# Altium schematic symbol library MCU_ST_STM32U0.SchLib: 48 symbols
Pins are listed as number, name and electrical type; pins without a type are passive.

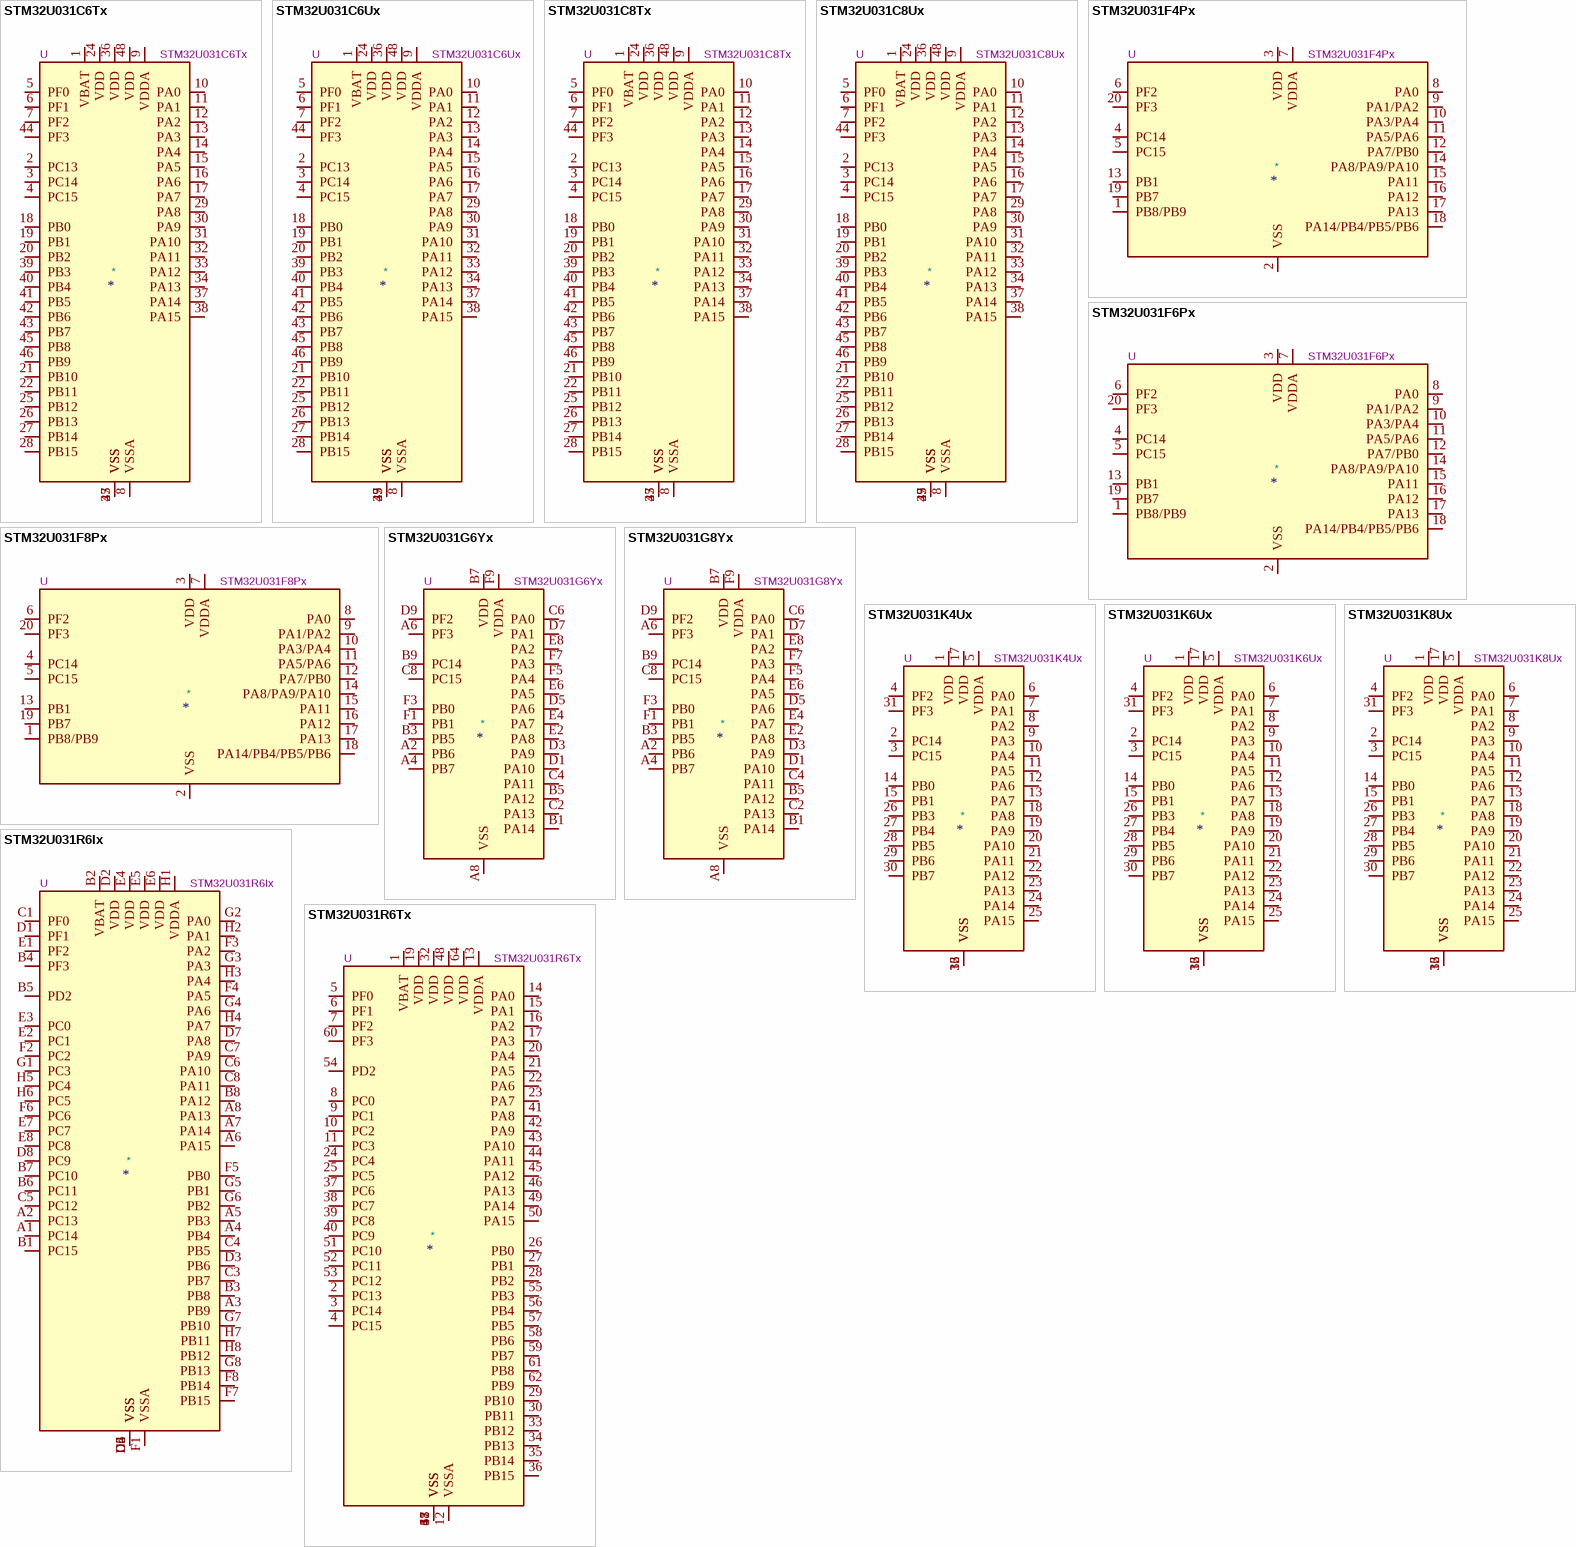
[diagram p0: symbols STM32U031C6Tx to STM32U031R6Tx]

## STM32U031C6Tx
designator *  value STM32U031C6Tx  Reference: U
STMicroelectronics Arm Cortex-M0+ MCU, 32KB flash, 12KB RAM, 39 GPIO, LQFP48; ki_keywords: Arm Cortex-M0+ STM32U0 STM32U0x1; ki_fp_filters: LQFP*7x7mm*P0.5mm*; Footprint: Package_QFP:LQFP-48_7x7mm_P0.5mm; Datasheet: https://www.st.com/resource/en/datasheet/stm32u031c6.pdf; Description_: STMicroelectronics Arm Cortex-M0+ MCU, 32KB flash, 12KB RAM, 39 GPIO, LQFP48
pins: 1 VBAT, 2 PC13, 3 PC14, 4 PC15, 5 PF0, 6 PF1, 7 PF2, 8 VSSA, 9 VDDA, 10 PA0, 11 PA1, 12 PA2, 13 PA3, 14 PA4, 15 PA5, 16 PA6, 17 PA7, 18 PB0, 19 PB1, 20 PB2, 21 PB10, 22 PB11, 23 VSS, 24 VDD, 25 PB12, 26 PB13, 27 PB14, 28 PB15, 29 PA8, 30 PA9, 31 PA10, 32 PA11, 33 PA12, 34 PA13, 35 VSS, 36 VDD, 37 PA14, 38 PA15, 39 PB3, 40 PB4, 41 PB5, 42 PB6, 43 PB7, 44 PF3, 45 PB8, 46 PB9, 47 VSS, 48 VDD

## STM32U031C6Ux
designator *  value STM32U031C6Ux  Reference: U
STMicroelectronics Arm Cortex-M0+ MCU, 32KB flash, 12KB RAM, 39 GPIO, UFQFPN48; ki_keywords: Arm Cortex-M0+ STM32U0 STM32U0x1; ki_fp_filters: QFN*1EP*7x7mm*P0.5mm*; Footprint: Package_DFN_QFN:QFN-48-1EP_7x7mm_P0.5mm_EP5.6x5.6mm; Datasheet: https://www.st.com/resource/en/datasheet/stm32u031c6.pdf; Description_: STMicroelectronics Arm Cortex-M0+ MCU, 32KB flash, 12KB RAM, 39 GPIO, UFQFPN48
pins: 1 VBAT, 2 PC13, 3 PC14, 4 PC15, 5 PF0, 6 PF1, 7 PF2, 8 VSSA, 9 VDDA, 10 PA0, 11 PA1, 12 PA2, 13 PA3, 14 PA4, 15 PA5, 16 PA6, 17 PA7, 18 PB0, 19 PB1, 20 PB2, 21 PB10, 22 PB11, 23 VSS, 24 VDD, 25 PB12, 26 PB13, 27 PB14, 28 PB15, 29 PA8, 30 PA9, 31 PA10, 32 PA11, 33 PA12, 34 PA13, 35 VSS, 36 VDD, 37 PA14, 38 PA15, 39 PB3, 40 PB4, 41 PB5, 42 PB6, 43 PB7, 44 PF3, 45 PB8, 46 PB9, 47 VSS, 48 VDD, 49 VSS

## STM32U031C8Tx
designator *  value STM32U031C8Tx  Reference: U
STMicroelectronics Arm Cortex-M0+ MCU, 64KB flash, 12KB RAM, 39 GPIO, LQFP48; ki_keywords: Arm Cortex-M0+ STM32U0 STM32U0x1; ki_fp_filters: LQFP*7x7mm*P0.5mm*; Footprint: Package_QFP:LQFP-48_7x7mm_P0.5mm; Datasheet: https://www.st.com/resource/en/datasheet/stm32u031c8.pdf; Description_: STMicroelectronics Arm Cortex-M0+ MCU, 64KB flash, 12KB RAM, 39 GPIO, LQFP48
pins: 1 VBAT, 2 PC13, 3 PC14, 4 PC15, 5 PF0, 6 PF1, 7 PF2, 8 VSSA, 9 VDDA, 10 PA0, 11 PA1, 12 PA2, 13 PA3, 14 PA4, 15 PA5, 16 PA6, 17 PA7, 18 PB0, 19 PB1, 20 PB2, 21 PB10, 22 PB11, 23 VSS, 24 VDD, 25 PB12, 26 PB13, 27 PB14, 28 PB15, 29 PA8, 30 PA9, 31 PA10, 32 PA11, 33 PA12, 34 PA13, 35 VSS, 36 VDD, 37 PA14, 38 PA15, 39 PB3, 40 PB4, 41 PB5, 42 PB6, 43 PB7, 44 PF3, 45 PB8, 46 PB9, 47 VSS, 48 VDD

## STM32U031C8Ux
designator *  value STM32U031C8Ux  Reference: U
STMicroelectronics Arm Cortex-M0+ MCU, 64KB flash, 12KB RAM, 39 GPIO, UFQFPN48; ki_keywords: Arm Cortex-M0+ STM32U0 STM32U0x1; ki_fp_filters: QFN*1EP*7x7mm*P0.5mm*; Footprint: Package_DFN_QFN:QFN-48-1EP_7x7mm_P0.5mm_EP5.6x5.6mm; Datasheet: https://www.st.com/resource/en/datasheet/stm32u031c8.pdf; Description_: STMicroelectronics Arm Cortex-M0+ MCU, 64KB flash, 12KB RAM, 39 GPIO, UFQFPN48
pins: 1 VBAT, 2 PC13, 3 PC14, 4 PC15, 5 PF0, 6 PF1, 7 PF2, 8 VSSA, 9 VDDA, 10 PA0, 11 PA1, 12 PA2, 13 PA3, 14 PA4, 15 PA5, 16 PA6, 17 PA7, 18 PB0, 19 PB1, 20 PB2, 21 PB10, 22 PB11, 23 VSS, 24 VDD, 25 PB12, 26 PB13, 27 PB14, 28 PB15, 29 PA8, 30 PA9, 31 PA10, 32 PA11, 33 PA12, 34 PA13, 35 VSS, 36 VDD, 37 PA14, 38 PA15, 39 PB3, 40 PB4, 41 PB5, 42 PB6, 43 PB7, 44 PF3, 45 PB8, 46 PB9, 47 VSS, 48 VDD, 49 VSS

## STM32U031F4Px
designator *  value STM32U031F4Px  Reference: U
STMicroelectronics Arm Cortex-M0+ MCU, 16KB flash, 12KB RAM, 17 GPIO, TSSOP20; ki_keywords: Arm Cortex-M0+ STM32U0 STM32U0x1; ki_fp_filters: TSSOP*4.4x6.5mm*P0.65mm*; Footprint: Package_SO:TSSOP-20_4.4x6.5mm_P0.65mm; Datasheet: https://www.st.com/resource/en/datasheet/stm32u031f4.pdf; Description_: STMicroelectronics Arm Cortex-M0+ MCU, 16KB flash, 12KB RAM, 17 GPIO, TSSOP20
pins: 1 PB8/PB9, 2 VSS, 3 VDD, 4 PC14, 5 PC15, 6 PF2, 7 VDDA, 8 PA0, 9 PA1/PA2, 10 PA3/PA4, 11 PA5/PA6, 12 PA7/PB0, 13 PB1, 14 PA8/PA9/PA10, 15 PA11, 16 PA12, 17 PA13, 18 PA14/PB4/PB5/PB6, 19 PB7, 20 PF3

## STM32U031F6Px
designator *  value STM32U031F6Px  Reference: U
STMicroelectronics Arm Cortex-M0+ MCU, 32KB flash, 12KB RAM, 17 GPIO, TSSOP20; ki_keywords: Arm Cortex-M0+ STM32U0 STM32U0x1; ki_fp_filters: TSSOP*4.4x6.5mm*P0.65mm*; Footprint: Package_SO:TSSOP-20_4.4x6.5mm_P0.65mm; Datasheet: https://www.st.com/resource/en/datasheet/stm32u031f6.pdf; Description_: STMicroelectronics Arm Cortex-M0+ MCU, 32KB flash, 12KB RAM, 17 GPIO, TSSOP20
pins: 1 PB8/PB9, 2 VSS, 3 VDD, 4 PC14, 5 PC15, 6 PF2, 7 VDDA, 8 PA0, 9 PA1/PA2, 10 PA3/PA4, 11 PA5/PA6, 12 PA7/PB0, 13 PB1, 14 PA8/PA9/PA10, 15 PA11, 16 PA12, 17 PA13, 18 PA14/PB4/PB5/PB6, 19 PB7, 20 PF3

## STM32U031F8Px
designator *  value STM32U031F8Px  Reference: U
STMicroelectronics Arm Cortex-M0+ MCU, 64KB flash, 12KB RAM, 17 GPIO, TSSOP20; ki_keywords: Arm Cortex-M0+ STM32U0 STM32U0x1; ki_fp_filters: TSSOP*4.4x6.5mm*P0.65mm*; Footprint: Package_SO:TSSOP-20_4.4x6.5mm_P0.65mm; Datasheet: https://www.st.com/resource/en/datasheet/stm32u031f8.pdf; Description_: STMicroelectronics Arm Cortex-M0+ MCU, 64KB flash, 12KB RAM, 17 GPIO, TSSOP20
pins: 1 PB8/PB9, 2 VSS, 3 VDD, 4 PC14, 5 PC15, 6 PF2, 7 VDDA, 8 PA0, 9 PA1/PA2, 10 PA3/PA4, 11 PA5/PA6, 12 PA7/PB0, 13 PB1, 14 PA8/PA9/PA10, 15 PA11, 16 PA12, 17 PA13, 18 PA14/PB4/PB5/PB6, 19 PB7, 20 PF3

## STM32U031G6Yx
designator *  value STM32U031G6Yx  Reference: U
STMicroelectronics Arm Cortex-M0+ MCU, 32KB flash, 12KB RAM, 24 GPIO, WLCSP27; ki_keywords: Arm Cortex-M0+ STM32U0 STM32U0x1; ki_fp_filters: ST*WLCSP*2.34x2.55mm*Layout9x6*P0.4mm*Stagger*; Footprint: Package_CSP:ST_WLCSP-27_2.34x2.55mm_Layout9x6_P0.4mm_Stagger; Datasheet: https://www.st.com/resource/en/datasheet/stm32u031g6.pdf; Description_: STMicroelectronics Arm Cortex-M0+ MCU, 32KB flash, 12KB RAM, 24 GPIO, WLCSP27
pins: A2 PB6, A4 PB7, A6 PF3, A8 VSS, B1 PA14, B3 PB5, B5 PA12, B7 VDD, B9 PC14, C2 PA13, C4 PA11, C6 PA0, C8 PC15, D1 PA10, D3 PA9, D5 PA6, D7 PA1, D9 PF2, E2 PA8, E4 PA7, E6 PA5, E8 PA2, F1 PB1, F3 PB0, F5 PA4, F7 PA3, F9 VDDA

## STM32U031G8Yx
designator *  value STM32U031G8Yx  Reference: U
STMicroelectronics Arm Cortex-M0+ MCU, 64KB flash, 12KB RAM, 24 GPIO, WLCSP27; ki_keywords: Arm Cortex-M0+ STM32U0 STM32U0x1; ki_fp_filters: ST*WLCSP*2.34x2.55mm*Layout9x6*P0.4mm*Stagger*; Footprint: Package_CSP:ST_WLCSP-27_2.34x2.55mm_Layout9x6_P0.4mm_Stagger; Datasheet: https://www.st.com/resource/en/datasheet/stm32u031g8.pdf; Description_: STMicroelectronics Arm Cortex-M0+ MCU, 64KB flash, 12KB RAM, 24 GPIO, WLCSP27
pins: A2 PB6, A4 PB7, A6 PF3, A8 VSS, B1 PA14, B3 PB5, B5 PA12, B7 VDD, B9 PC14, C2 PA13, C4 PA11, C6 PA0, C8 PC15, D1 PA10, D3 PA9, D5 PA6, D7 PA1, D9 PF2, E2 PA8, E4 PA7, E6 PA5, E8 PA2, F1 PB1, F3 PB0, F5 PA4, F7 PA3, F9 VDDA

## STM32U031K4Ux
designator *  value STM32U031K4Ux  Reference: U
STMicroelectronics Arm Cortex-M0+ MCU, 16KB flash, 12KB RAM, 27 GPIO, UFQFPN32; ki_keywords: Arm Cortex-M0+ STM32U0 STM32U0x1; ki_fp_filters: QFN*1EP*5x5mm*P0.5mm*; Footprint: Package_DFN_QFN:QFN-32-1EP_5x5mm_P0.5mm_EP3.45x3.45mm; Datasheet: https://www.st.com/resource/en/datasheet/stm32u031k4.pdf; Description_: STMicroelectronics Arm Cortex-M0+ MCU, 16KB flash, 12KB RAM, 27 GPIO, UFQFPN32
pins: 1 VDD, 2 PC14, 3 PC15, 4 PF2, 5 VDDA, 6 PA0, 7 PA1, 8 PA2, 9 PA3, 10 PA4, 11 PA5, 12 PA6, 13 PA7, 14 PB0, 15 PB1, 16 VSS, 17 VDD, 18 PA8, 19 PA9, 20 PA10, 21 PA11, 22 PA12, 23 PA13, 24 PA14, 25 PA15, 26 PB3, 27 PB4, 28 PB5, 29 PB6, 30 PB7, 31 PF3, 32 VSS, 33 VSS

## STM32U031K6Ux
designator *  value STM32U031K6Ux  Reference: U
STMicroelectronics Arm Cortex-M0+ MCU, 32KB flash, 12KB RAM, 27 GPIO, UFQFPN32; ki_keywords: Arm Cortex-M0+ STM32U0 STM32U0x1; ki_fp_filters: QFN*1EP*5x5mm*P0.5mm*; Footprint: Package_DFN_QFN:QFN-32-1EP_5x5mm_P0.5mm_EP3.45x3.45mm; Datasheet: https://www.st.com/resource/en/datasheet/stm32u031k6.pdf; Description_: STMicroelectronics Arm Cortex-M0+ MCU, 32KB flash, 12KB RAM, 27 GPIO, UFQFPN32
pins: 1 VDD, 2 PC14, 3 PC15, 4 PF2, 5 VDDA, 6 PA0, 7 PA1, 8 PA2, 9 PA3, 10 PA4, 11 PA5, 12 PA6, 13 PA7, 14 PB0, 15 PB1, 16 VSS, 17 VDD, 18 PA8, 19 PA9, 20 PA10, 21 PA11, 22 PA12, 23 PA13, 24 PA14, 25 PA15, 26 PB3, 27 PB4, 28 PB5, 29 PB6, 30 PB7, 31 PF3, 32 VSS, 33 VSS

## STM32U031K8Ux
designator *  value STM32U031K8Ux  Reference: U
STMicroelectronics Arm Cortex-M0+ MCU, 64KB flash, 12KB RAM, 27 GPIO, UFQFPN32; ki_keywords: Arm Cortex-M0+ STM32U0 STM32U0x1; ki_fp_filters: QFN*1EP*5x5mm*P0.5mm*; Footprint: Package_DFN_QFN:QFN-32-1EP_5x5mm_P0.5mm_EP3.45x3.45mm; Datasheet: https://www.st.com/resource/en/datasheet/stm32u031k8.pdf; Description_: STMicroelectronics Arm Cortex-M0+ MCU, 64KB flash, 12KB RAM, 27 GPIO, UFQFPN32
pins: 1 VDD, 2 PC14, 3 PC15, 4 PF2, 5 VDDA, 6 PA0, 7 PA1, 8 PA2, 9 PA3, 10 PA4, 11 PA5, 12 PA6, 13 PA7, 14 PB0, 15 PB1, 16 VSS, 17 VDD, 18 PA8, 19 PA9, 20 PA10, 21 PA11, 22 PA12, 23 PA13, 24 PA14, 25 PA15, 26 PB3, 27 PB4, 28 PB5, 29 PB6, 30 PB7, 31 PF3, 32 VSS, 33 VSS

## STM32U031R6Ix
designator *  value STM32U031R6Ix  Reference: U
STMicroelectronics Arm Cortex-M0+ MCU, 32KB flash, 12KB RAM, 53 GPIO, UFBGA64; ki_keywords: Arm Cortex-M0+ STM32U0 STM32U0x1; ki_fp_filters: UFBGA*5x5mm*Layout8x8*P0.5mm*; Footprint: Package_BGA:UFBGA-64_5x5mm_Layout8x8_P0.5mm; Datasheet: https://www.st.com/resource/en/datasheet/stm32u031r6.pdf; Description_: STMicroelectronics Arm Cortex-M0+ MCU, 32KB flash, 12KB RAM, 53 GPIO, UFBGA64
pins: A1 PC14, A2 PC13, A3 PB9, A4 PB4, A5 PB3, A6 PA15, A7 PA14, A8 PA13, B1 PC15, B2 VBAT, B3 PB8, B4 PF3, B5 PD2, B6 PC11, B7 PC10, B8 PA12, C1 PF0, C2 VSS, C3 PB7, C4 PB5, C5 PC12, C6 PA10, C7 PA9, C8 PA11, D1 PF1, D2 VDD, D3 PB6, D4 VSS, D5 VSS, D6 VSS, D7 PA8, D8 PC9, E1 PF2, E2 PC1, E3 PC0, E4 VDD, E5 VDD, E6 VDD, E7 PC7, E8 PC8, F1 VSSA, F2 PC2, F3 PA2, F4 PA5, F5 PB0, F6 PC6, F7 PB15, F8 PB14, G1 PC3, G2 PA0, G3 PA3, G4 PA6, G5 PB1, G6 PB2, G7 PB10, G8 PB13, H1 VDDA, H2 PA1, H3 PA4, H4 PA7, H5 PC4, H6 PC5, H7 PB11, H8 PB12

## STM32U031R6Tx
designator *  value STM32U031R6Tx  Reference: U
STMicroelectronics Arm Cortex-M0+ MCU, 32KB flash, 12KB RAM, 53 GPIO, LQFP64; ki_keywords: Arm Cortex-M0+ STM32U0 STM32U0x1; ki_fp_filters: LQFP*10x10mm*P0.5mm*; Footprint: Package_QFP:LQFP-64_10x10mm_P0.5mm; Datasheet: https://www.st.com/resource/en/datasheet/stm32u031r6.pdf; Description_: STMicroelectronics Arm Cortex-M0+ MCU, 32KB flash, 12KB RAM, 53 GPIO, LQFP64
pins: 1 VBAT, 2 PC13, 3 PC14, 4 PC15, 5 PF0, 6 PF1, 7 PF2, 8 PC0, 9 PC1, 10 PC2, 11 PC3, 12 VSSA, 13 VDDA, 14 PA0, 15 PA1, 16 PA2, 17 PA3, 18 VSS, 19 VDD, 20 PA4, 21 PA5, 22 PA6, 23 PA7, 24 PC4, 25 PC5, 26 PB0, 27 PB1, 28 PB2, 29 PB10, 30 PB11, 31 VSS, 32 VDD, 33 PB12, 34 PB13, 35 PB14, 36 PB15, 37 PC6, 38 PC7, 39 PC8, 40 PC9, 41 PA8, 42 PA9, 43 PA10, 44 PA11, 45 PA12, 46 PA13, 47 VSS, 48 VDD, 49 PA14, 50 PA15, 51 PC10, 52 PC11, 53 PC12, 54 PD2, 55 PB3, 56 PB4, 57 PB5, 58 PB6, 59 PB7, 60 PF3, 61 PB8, 62 PB9, 63 VSS, 64 VDD

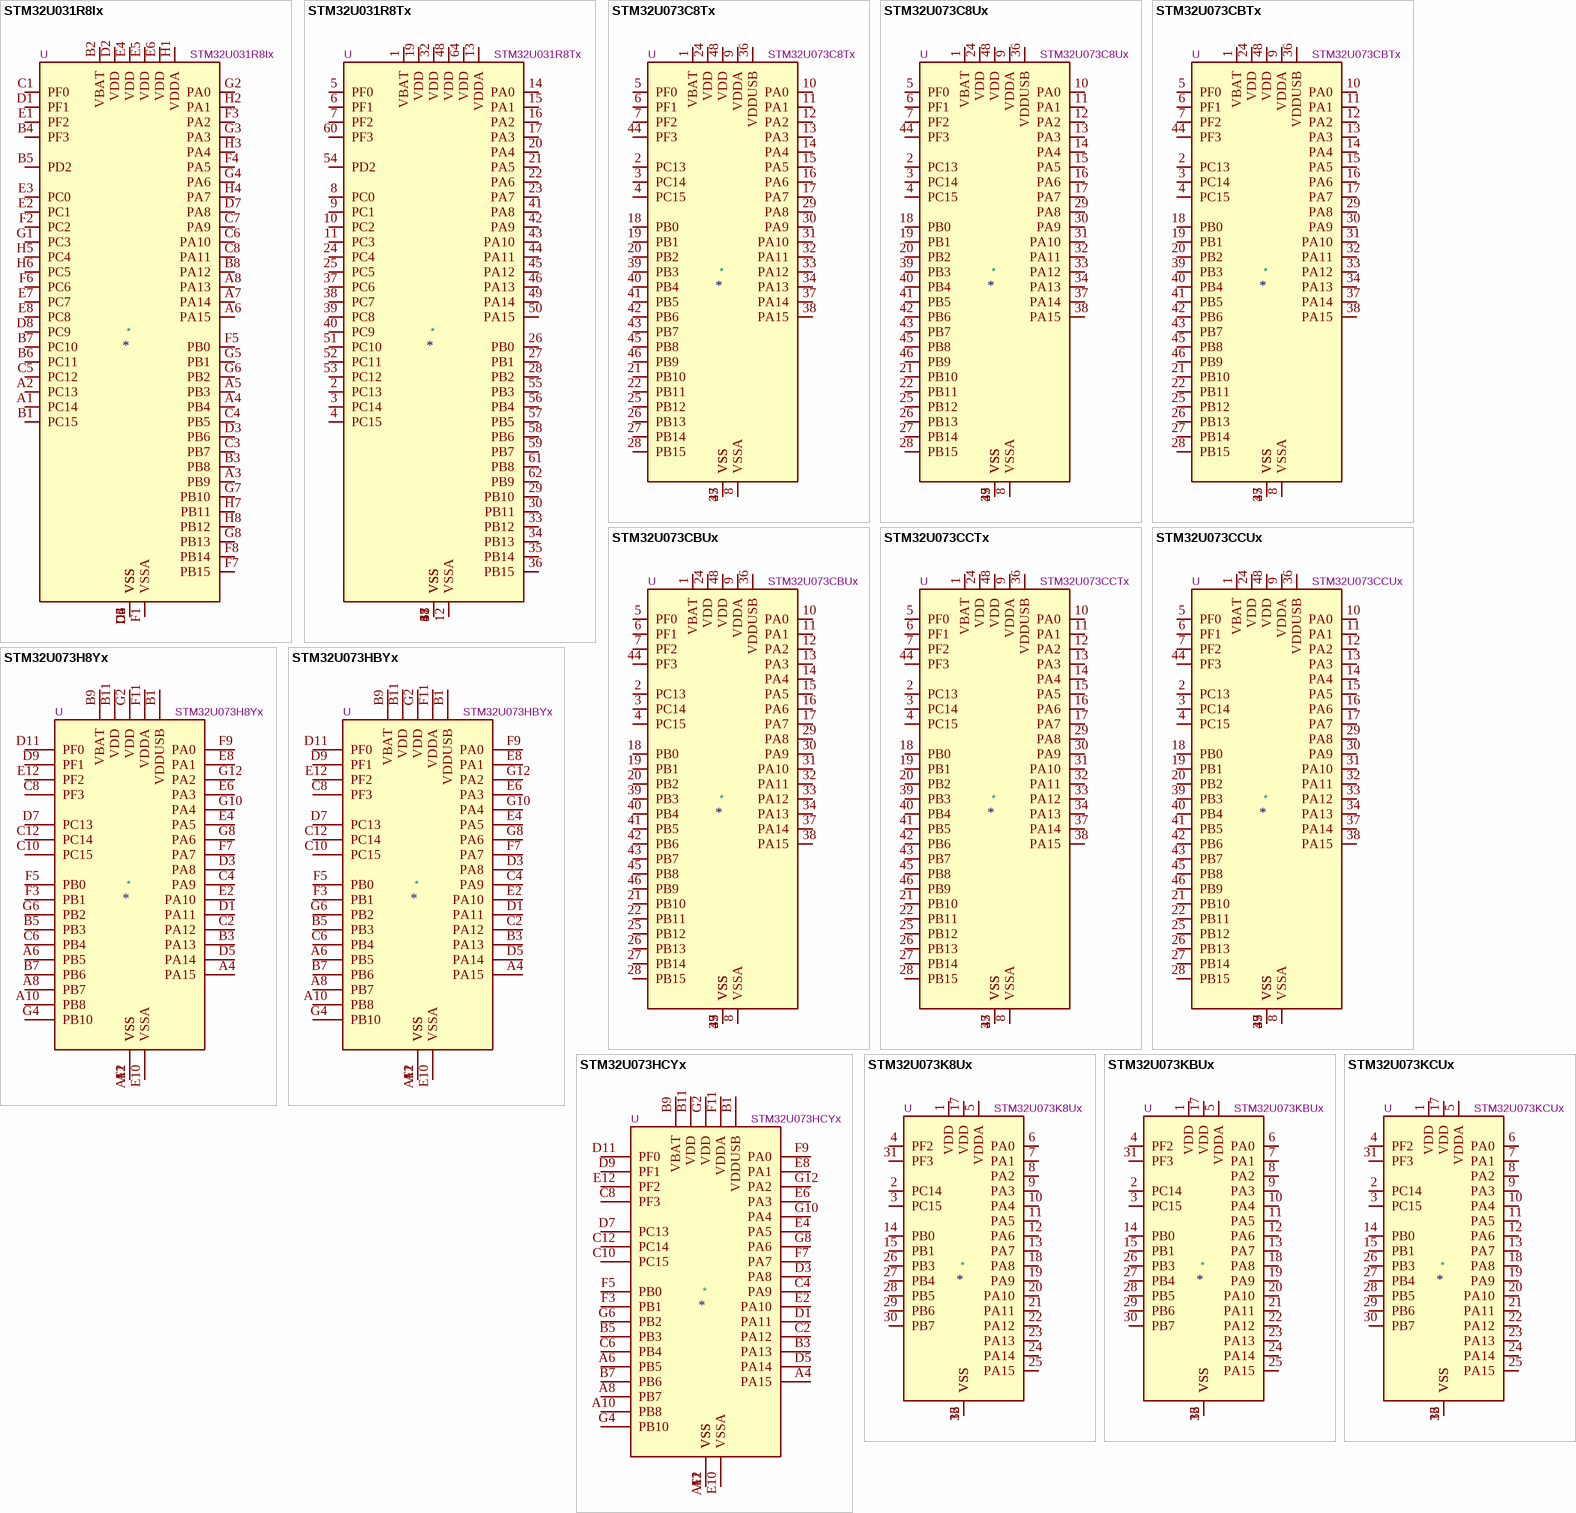
[diagram p1: symbols STM32U031R8Ix to STM32U073KCUx]

## STM32U031R8Ix
designator *  value STM32U031R8Ix  Reference: U
STMicroelectronics Arm Cortex-M0+ MCU, 64KB flash, 12KB RAM, 53 GPIO, UFBGA64; ki_keywords: Arm Cortex-M0+ STM32U0 STM32U0x1; ki_fp_filters: UFBGA*5x5mm*Layout8x8*P0.5mm*; Footprint: Package_BGA:UFBGA-64_5x5mm_Layout8x8_P0.5mm; Datasheet: https://www.st.com/resource/en/datasheet/stm32u031r8.pdf; Description_: STMicroelectronics Arm Cortex-M0+ MCU, 64KB flash, 12KB RAM, 53 GPIO, UFBGA64
pins: A1 PC14, A2 PC13, A3 PB9, A4 PB4, A5 PB3, A6 PA15, A7 PA14, A8 PA13, B1 PC15, B2 VBAT, B3 PB8, B4 PF3, B5 PD2, B6 PC11, B7 PC10, B8 PA12, C1 PF0, C2 VSS, C3 PB7, C4 PB5, C5 PC12, C6 PA10, C7 PA9, C8 PA11, D1 PF1, D2 VDD, D3 PB6, D4 VSS, D5 VSS, D6 VSS, D7 PA8, D8 PC9, E1 PF2, E2 PC1, E3 PC0, E4 VDD, E5 VDD, E6 VDD, E7 PC7, E8 PC8, F1 VSSA, F2 PC2, F3 PA2, F4 PA5, F5 PB0, F6 PC6, F7 PB15, F8 PB14, G1 PC3, G2 PA0, G3 PA3, G4 PA6, G5 PB1, G6 PB2, G7 PB10, G8 PB13, H1 VDDA, H2 PA1, H3 PA4, H4 PA7, H5 PC4, H6 PC5, H7 PB11, H8 PB12

## STM32U031R8Tx
designator *  value STM32U031R8Tx  Reference: U
STMicroelectronics Arm Cortex-M0+ MCU, 64KB flash, 12KB RAM, 53 GPIO, LQFP64; ki_keywords: Arm Cortex-M0+ STM32U0 STM32U0x1; ki_fp_filters: LQFP*10x10mm*P0.5mm*; Footprint: Package_QFP:LQFP-64_10x10mm_P0.5mm; Datasheet: https://www.st.com/resource/en/datasheet/stm32u031r8.pdf; Description_: STMicroelectronics Arm Cortex-M0+ MCU, 64KB flash, 12KB RAM, 53 GPIO, LQFP64
pins: 1 VBAT, 2 PC13, 3 PC14, 4 PC15, 5 PF0, 6 PF1, 7 PF2, 8 PC0, 9 PC1, 10 PC2, 11 PC3, 12 VSSA, 13 VDDA, 14 PA0, 15 PA1, 16 PA2, 17 PA3, 18 VSS, 19 VDD, 20 PA4, 21 PA5, 22 PA6, 23 PA7, 24 PC4, 25 PC5, 26 PB0, 27 PB1, 28 PB2, 29 PB10, 30 PB11, 31 VSS, 32 VDD, 33 PB12, 34 PB13, 35 PB14, 36 PB15, 37 PC6, 38 PC7, 39 PC8, 40 PC9, 41 PA8, 42 PA9, 43 PA10, 44 PA11, 45 PA12, 46 PA13, 47 VSS, 48 VDD, 49 PA14, 50 PA15, 51 PC10, 52 PC11, 53 PC12, 54 PD2, 55 PB3, 56 PB4, 57 PB5, 58 PB6, 59 PB7, 60 PF3, 61 PB8, 62 PB9, 63 VSS, 64 VDD

## STM32U073C8Tx
designator *  value STM32U073C8Tx  Reference: U
STMicroelectronics Arm Cortex-M0+ MCU, 64KB flash, 40KB RAM, 39 GPIO, LQFP48; ki_keywords: Arm Cortex-M0+ STM32U0 STM32U0x3; ki_fp_filters: LQFP*7x7mm*P0.5mm*; Footprint: Package_QFP:LQFP-48_7x7mm_P0.5mm; Datasheet: https://www.st.com/resource/en/datasheet/stm32u073c8.pdf; Description_: STMicroelectronics Arm Cortex-M0+ MCU, 64KB flash, 40KB RAM, 39 GPIO, LQFP48
pins: 1 VBAT, 2 PC13, 3 PC14, 4 PC15, 5 PF0, 6 PF1, 7 PF2, 8 VSSA, 9 VDDA, 10 PA0, 11 PA1, 12 PA2, 13 PA3, 14 PA4, 15 PA5, 16 PA6, 17 PA7, 18 PB0, 19 PB1, 20 PB2, 21 PB10, 22 PB11, 23 VSS, 24 VDD, 25 PB12, 26 PB13, 27 PB14, 28 PB15, 29 PA8, 30 PA9, 31 PA10, 32 PA11, 33 PA12, 34 PA13, 35 VSS, 36 VDDUSB, 37 PA14, 38 PA15, 39 PB3, 40 PB4, 41 PB5, 42 PB6, 43 PB7, 44 PF3, 45 PB8, 46 PB9, 47 VSS, 48 VDD

## STM32U073C8Ux
designator *  value STM32U073C8Ux  Reference: U
STMicroelectronics Arm Cortex-M0+ MCU, 64KB flash, 40KB RAM, 39 GPIO, UFQFPN48; ki_keywords: Arm Cortex-M0+ STM32U0 STM32U0x3; ki_fp_filters: QFN*1EP*7x7mm*P0.5mm*; Footprint: Package_DFN_QFN:QFN-48-1EP_7x7mm_P0.5mm_EP5.6x5.6mm; Datasheet: https://www.st.com/resource/en/datasheet/stm32u073c8.pdf; Description_: STMicroelectronics Arm Cortex-M0+ MCU, 64KB flash, 40KB RAM, 39 GPIO, UFQFPN48
pins: 1 VBAT, 2 PC13, 3 PC14, 4 PC15, 5 PF0, 6 PF1, 7 PF2, 8 VSSA, 9 VDDA, 10 PA0, 11 PA1, 12 PA2, 13 PA3, 14 PA4, 15 PA5, 16 PA6, 17 PA7, 18 PB0, 19 PB1, 20 PB2, 21 PB10, 22 PB11, 23 VSS, 24 VDD, 25 PB12, 26 PB13, 27 PB14, 28 PB15, 29 PA8, 30 PA9, 31 PA10, 32 PA11, 33 PA12, 34 PA13, 35 VSS, 36 VDDUSB, 37 PA14, 38 PA15, 39 PB3, 40 PB4, 41 PB5, 42 PB6, 43 PB7, 44 PF3, 45 PB8, 46 PB9, 47 VSS, 48 VDD, 49 VSS

## STM32U073CBTx
designator *  value STM32U073CBTx  Reference: U
STMicroelectronics Arm Cortex-M0+ MCU, 128KB flash, 40KB RAM, 39 GPIO, LQFP48; ki_keywords: Arm Cortex-M0+ STM32U0 STM32U0x3; ki_fp_filters: LQFP*7x7mm*P0.5mm*; Footprint: Package_QFP:LQFP-48_7x7mm_P0.5mm; Datasheet: https://www.st.com/resource/en/datasheet/stm32u073cb.pdf; Description_: STMicroelectronics Arm Cortex-M0+ MCU, 128KB flash, 40KB RAM, 39 GPIO, LQFP48
pins: 1 VBAT, 2 PC13, 3 PC14, 4 PC15, 5 PF0, 6 PF1, 7 PF2, 8 VSSA, 9 VDDA, 10 PA0, 11 PA1, 12 PA2, 13 PA3, 14 PA4, 15 PA5, 16 PA6, 17 PA7, 18 PB0, 19 PB1, 20 PB2, 21 PB10, 22 PB11, 23 VSS, 24 VDD, 25 PB12, 26 PB13, 27 PB14, 28 PB15, 29 PA8, 30 PA9, 31 PA10, 32 PA11, 33 PA12, 34 PA13, 35 VSS, 36 VDDUSB, 37 PA14, 38 PA15, 39 PB3, 40 PB4, 41 PB5, 42 PB6, 43 PB7, 44 PF3, 45 PB8, 46 PB9, 47 VSS, 48 VDD

## STM32U073CBUx
designator *  value STM32U073CBUx  Reference: U
STMicroelectronics Arm Cortex-M0+ MCU, 128KB flash, 40KB RAM, 39 GPIO, UFQFPN48; ki_keywords: Arm Cortex-M0+ STM32U0 STM32U0x3; ki_fp_filters: QFN*1EP*7x7mm*P0.5mm*; Footprint: Package_DFN_QFN:QFN-48-1EP_7x7mm_P0.5mm_EP5.6x5.6mm; Datasheet: https://www.st.com/resource/en/datasheet/stm32u073cb.pdf; Description_: STMicroelectronics Arm Cortex-M0+ MCU, 128KB flash, 40KB RAM, 39 GPIO, UFQFPN48
pins: 1 VBAT, 2 PC13, 3 PC14, 4 PC15, 5 PF0, 6 PF1, 7 PF2, 8 VSSA, 9 VDDA, 10 PA0, 11 PA1, 12 PA2, 13 PA3, 14 PA4, 15 PA5, 16 PA6, 17 PA7, 18 PB0, 19 PB1, 20 PB2, 21 PB10, 22 PB11, 23 VSS, 24 VDD, 25 PB12, 26 PB13, 27 PB14, 28 PB15, 29 PA8, 30 PA9, 31 PA10, 32 PA11, 33 PA12, 34 PA13, 35 VSS, 36 VDDUSB, 37 PA14, 38 PA15, 39 PB3, 40 PB4, 41 PB5, 42 PB6, 43 PB7, 44 PF3, 45 PB8, 46 PB9, 47 VSS, 48 VDD, 49 VSS

## STM32U073CCTx
designator *  value STM32U073CCTx  Reference: U
STMicroelectronics Arm Cortex-M0+ MCU, 256KB flash, 40KB RAM, 56 MHz, 39 GPIO, LQFP48; ki_keywords: Arm Cortex-M0+ STM32U0 STM32U0x3; ki_fp_filters: LQFP*7x7mm*P0.5mm*; Footprint: Package_QFP:LQFP-48_7x7mm_P0.5mm; Datasheet: https://www.st.com/resource/en/datasheet/stm32u073cc.pdf; Description_: STMicroelectronics Arm Cortex-M0+ MCU, 256KB flash, 40KB RAM, 56 MHz, 39 GPIO, LQFP48
pins: 1 VBAT, 2 PC13, 3 PC14, 4 PC15, 5 PF0, 6 PF1, 7 PF2, 8 VSSA, 9 VDDA, 10 PA0, 11 PA1, 12 PA2, 13 PA3, 14 PA4, 15 PA5, 16 PA6, 17 PA7, 18 PB0, 19 PB1, 20 PB2, 21 PB10, 22 PB11, 23 VSS, 24 VDD, 25 PB12, 26 PB13, 27 PB14, 28 PB15, 29 PA8, 30 PA9, 31 PA10, 32 PA11, 33 PA12, 34 PA13, 35 VSS, 36 VDDUSB, 37 PA14, 38 PA15, 39 PB3, 40 PB4, 41 PB5, 42 PB6, 43 PB7, 44 PF3, 45 PB8, 46 PB9, 47 VSS, 48 VDD

## STM32U073CCUx
designator *  value STM32U073CCUx  Reference: U
STMicroelectronics Arm Cortex-M0+ MCU, 256KB flash, 40KB RAM, 56 MHz, 39 GPIO, UFQFPN48; ki_keywords: Arm Cortex-M0+ STM32U0 STM32U0x3; ki_fp_filters: QFN*1EP*7x7mm*P0.5mm*; Footprint: Package_DFN_QFN:QFN-48-1EP_7x7mm_P0.5mm_EP5.6x5.6mm; Datasheet: https://www.st.com/resource/en/datasheet/stm32u073cc.pdf; Description_: STMicroelectronics Arm Cortex-M0+ MCU, 256KB flash, 40KB RAM, 56 MHz, 39 GPIO, UFQFPN48
pins: 1 VBAT, 2 PC13, 3 PC14, 4 PC15, 5 PF0, 6 PF1, 7 PF2, 8 VSSA, 9 VDDA, 10 PA0, 11 PA1, 12 PA2, 13 PA3, 14 PA4, 15 PA5, 16 PA6, 17 PA7, 18 PB0, 19 PB1, 20 PB2, 21 PB10, 22 PB11, 23 VSS, 24 VDD, 25 PB12, 26 PB13, 27 PB14, 28 PB15, 29 PA8, 30 PA9, 31 PA10, 32 PA11, 33 PA12, 34 PA13, 35 VSS, 36 VDDUSB, 37 PA14, 38 PA15, 39 PB3, 40 PB4, 41 PB5, 42 PB6, 43 PB7, 44 PF3, 45 PB8, 46 PB9, 47 VSS, 48 VDD, 49 VSS

## STM32U073H8Yx
designator *  value STM32U073H8Yx  Reference: U
STMicroelectronics Arm Cortex-M0+ MCU, 64KB flash, 40KB RAM, 33 GPIO, WLCSP42; ki_keywords: Arm Cortex-M0+ STM32U0 STM32U0x3; ki_fp_filters: ST*WLCSP*2.93x2.82mm*Layout12x7*P0.4mm*Stagger*; Footprint: Package_CSP:ST_WLCSP-42_2.93x2.82mm_Layout12x7_P0.4mm_Stagger; Datasheet: https://www.st.com/resource/en/datasheet/stm32u073h8.pdf; Description_: STMicroelectronics Arm Cortex-M0+ MCU, 64KB flash, 40KB RAM, 33 GPIO, WLCSP42
pins: A2 VSS, A4 PA15, A6 PB5, A8 PB7, A10 PB8, A12 VSS, B1 VDDUSB, B3 PA13, B5 PB3, B7 PB6, B9 VBAT, B11 VDD, C2 PA12, C4 PA9, C6 PB4, C8 PF3, C10 PC15, C12 PC14, D1 PA11, D3 PA8, D5 PA14, D7 PC13, D9 PF1, D11 PF0, E2 PA10, E4 PA5, E6 PA3, E8 PA1, E10 VSSA, E12 PF2, F1 VSS, F3 PB1, F5 PB0, F7 PA7, F9 PA0, F11 VDDA, G2 VDD, G4 PB10, G6 PB2, G8 PA6, G10 PA4, G12 PA2

## STM32U073HBYx
designator *  value STM32U073HBYx  Reference: U
STMicroelectronics Arm Cortex-M0+ MCU, 128KB flash, 40KB RAM, 33 GPIO, WLCSP42; ki_keywords: Arm Cortex-M0+ STM32U0 STM32U0x3; ki_fp_filters: ST*WLCSP*2.93x2.82mm*Layout12x7*P0.4mm*Stagger*; Footprint: Package_CSP:ST_WLCSP-42_2.93x2.82mm_Layout12x7_P0.4mm_Stagger; Datasheet: https://www.st.com/resource/en/datasheet/stm32u073hb.pdf; Description_: STMicroelectronics Arm Cortex-M0+ MCU, 128KB flash, 40KB RAM, 33 GPIO, WLCSP42
pins: A2 VSS, A4 PA15, A6 PB5, A8 PB7, A10 PB8, A12 VSS, B1 VDDUSB, B3 PA13, B5 PB3, B7 PB6, B9 VBAT, B11 VDD, C2 PA12, C4 PA9, C6 PB4, C8 PF3, C10 PC15, C12 PC14, D1 PA11, D3 PA8, D5 PA14, D7 PC13, D9 PF1, D11 PF0, E2 PA10, E4 PA5, E6 PA3, E8 PA1, E10 VSSA, E12 PF2, F1 VSS, F3 PB1, F5 PB0, F7 PA7, F9 PA0, F11 VDDA, G2 VDD, G4 PB10, G6 PB2, G8 PA6, G10 PA4, G12 PA2

## STM32U073HCYx
designator *  value STM32U073HCYx  Reference: U
STMicroelectronics Arm Cortex-M0+ MCU, 256KB flash, 40KB RAM, 33 GPIO, WLCSP42; ki_keywords: Arm Cortex-M0+ STM32U0 STM32U0x3; ki_fp_filters: ST*WLCSP*2.93x2.82mm*Layout12x7*P0.4mm*Stagger*; Footprint: Package_CSP:ST_WLCSP-42_2.93x2.82mm_Layout12x7_P0.4mm_Stagger; Datasheet: https://www.st.com/resource/en/datasheet/stm32u073hc.pdf; Description_: STMicroelectronics Arm Cortex-M0+ MCU, 256KB flash, 40KB RAM, 33 GPIO, WLCSP42
pins: A2 VSS, A4 PA15, A6 PB5, A8 PB7, A10 PB8, A12 VSS, B1 VDDUSB, B3 PA13, B5 PB3, B7 PB6, B9 VBAT, B11 VDD, C2 PA12, C4 PA9, C6 PB4, C8 PF3, C10 PC15, C12 PC14, D1 PA11, D3 PA8, D5 PA14, D7 PC13, D9 PF1, D11 PF0, E2 PA10, E4 PA5, E6 PA3, E8 PA1, E10 VSSA, E12 PF2, F1 VSS, F3 PB1, F5 PB0, F7 PA7, F9 PA0, F11 VDDA, G2 VDD, G4 PB10, G6 PB2, G8 PA6, G10 PA4, G12 PA2

## STM32U073K8Ux
designator *  value STM32U073K8Ux  Reference: U
STMicroelectronics Arm Cortex-M0+ MCU, 64KB flash, 40KB RAM, 27 GPIO, UFQFPN32; ki_keywords: Arm Cortex-M0+ STM32U0 STM32U0x3; ki_fp_filters: QFN*1EP*5x5mm*P0.5mm*; Footprint: Package_DFN_QFN:QFN-32-1EP_5x5mm_P0.5mm_EP3.45x3.45mm; Datasheet: https://www.st.com/resource/en/datasheet/stm32u073k8.pdf; Description_: STMicroelectronics Arm Cortex-M0+ MCU, 64KB flash, 40KB RAM, 27 GPIO, UFQFPN32
pins: 1 VDD, 2 PC14, 3 PC15, 4 PF2, 5 VDDA, 6 PA0, 7 PA1, 8 PA2, 9 PA3, 10 PA4, 11 PA5, 12 PA6, 13 PA7, 14 PB0, 15 PB1, 16 VSS, 17 VDD, 18 PA8, 19 PA9, 20 PA10, 21 PA11, 22 PA12, 23 PA13, 24 PA14, 25 PA15, 26 PB3, 27 PB4, 28 PB5, 29 PB6, 30 PB7, 31 PF3, 32 VSS, 33 VSS

## STM32U073KBUx
designator *  value STM32U073KBUx  Reference: U
STMicroelectronics Arm Cortex-M0+ MCU, 128KB flash, 40KB RAM, 27 GPIO, UFQFPN32; ki_keywords: Arm Cortex-M0+ STM32U0 STM32U0x3; ki_fp_filters: QFN*1EP*5x5mm*P0.5mm*; Footprint: Package_DFN_QFN:QFN-32-1EP_5x5mm_P0.5mm_EP3.45x3.45mm; Datasheet: https://www.st.com/resource/en/datasheet/stm32u073kb.pdf; Description_: STMicroelectronics Arm Cortex-M0+ MCU, 128KB flash, 40KB RAM, 27 GPIO, UFQFPN32
pins: 1 VDD, 2 PC14, 3 PC15, 4 PF2, 5 VDDA, 6 PA0, 7 PA1, 8 PA2, 9 PA3, 10 PA4, 11 PA5, 12 PA6, 13 PA7, 14 PB0, 15 PB1, 16 VSS, 17 VDD, 18 PA8, 19 PA9, 20 PA10, 21 PA11, 22 PA12, 23 PA13, 24 PA14, 25 PA15, 26 PB3, 27 PB4, 28 PB5, 29 PB6, 30 PB7, 31 PF3, 32 VSS, 33 VSS

## STM32U073KCUx
designator *  value STM32U073KCUx  Reference: U
STMicroelectronics Arm Cortex-M0+ MCU, 256KB flash, 40KB RAM, 56 MHz, 27 GPIO, UFQFPN32; ki_keywords: Arm Cortex-M0+ STM32U0 STM32U0x3; ki_fp_filters: QFN*1EP*5x5mm*P0.5mm*; Footprint: Package_DFN_QFN:QFN-32-1EP_5x5mm_P0.5mm_EP3.45x3.45mm; Datasheet: https://www.st.com/resource/en/datasheet/stm32u073kc.pdf; Description_: STMicroelectronics Arm Cortex-M0+ MCU, 256KB flash, 40KB RAM, 56 MHz, 27 GPIO, UFQFPN32
pins: 1 VDD, 2 PC14, 3 PC15, 4 PF2, 5 VDDA, 6 PA0, 7 PA1, 8 PA2, 9 PA3, 10 PA4, 11 PA5, 12 PA6, 13 PA7, 14 PB0, 15 PB1, 16 VSS, 17 VDD, 18 PA8, 19 PA9, 20 PA10, 21 PA11, 22 PA12, 23 PA13, 24 PA14, 25 PA15, 26 PB3, 27 PB4, 28 PB5, 29 PB6, 30 PB7, 31 PF3, 32 VSS, 33 VSS

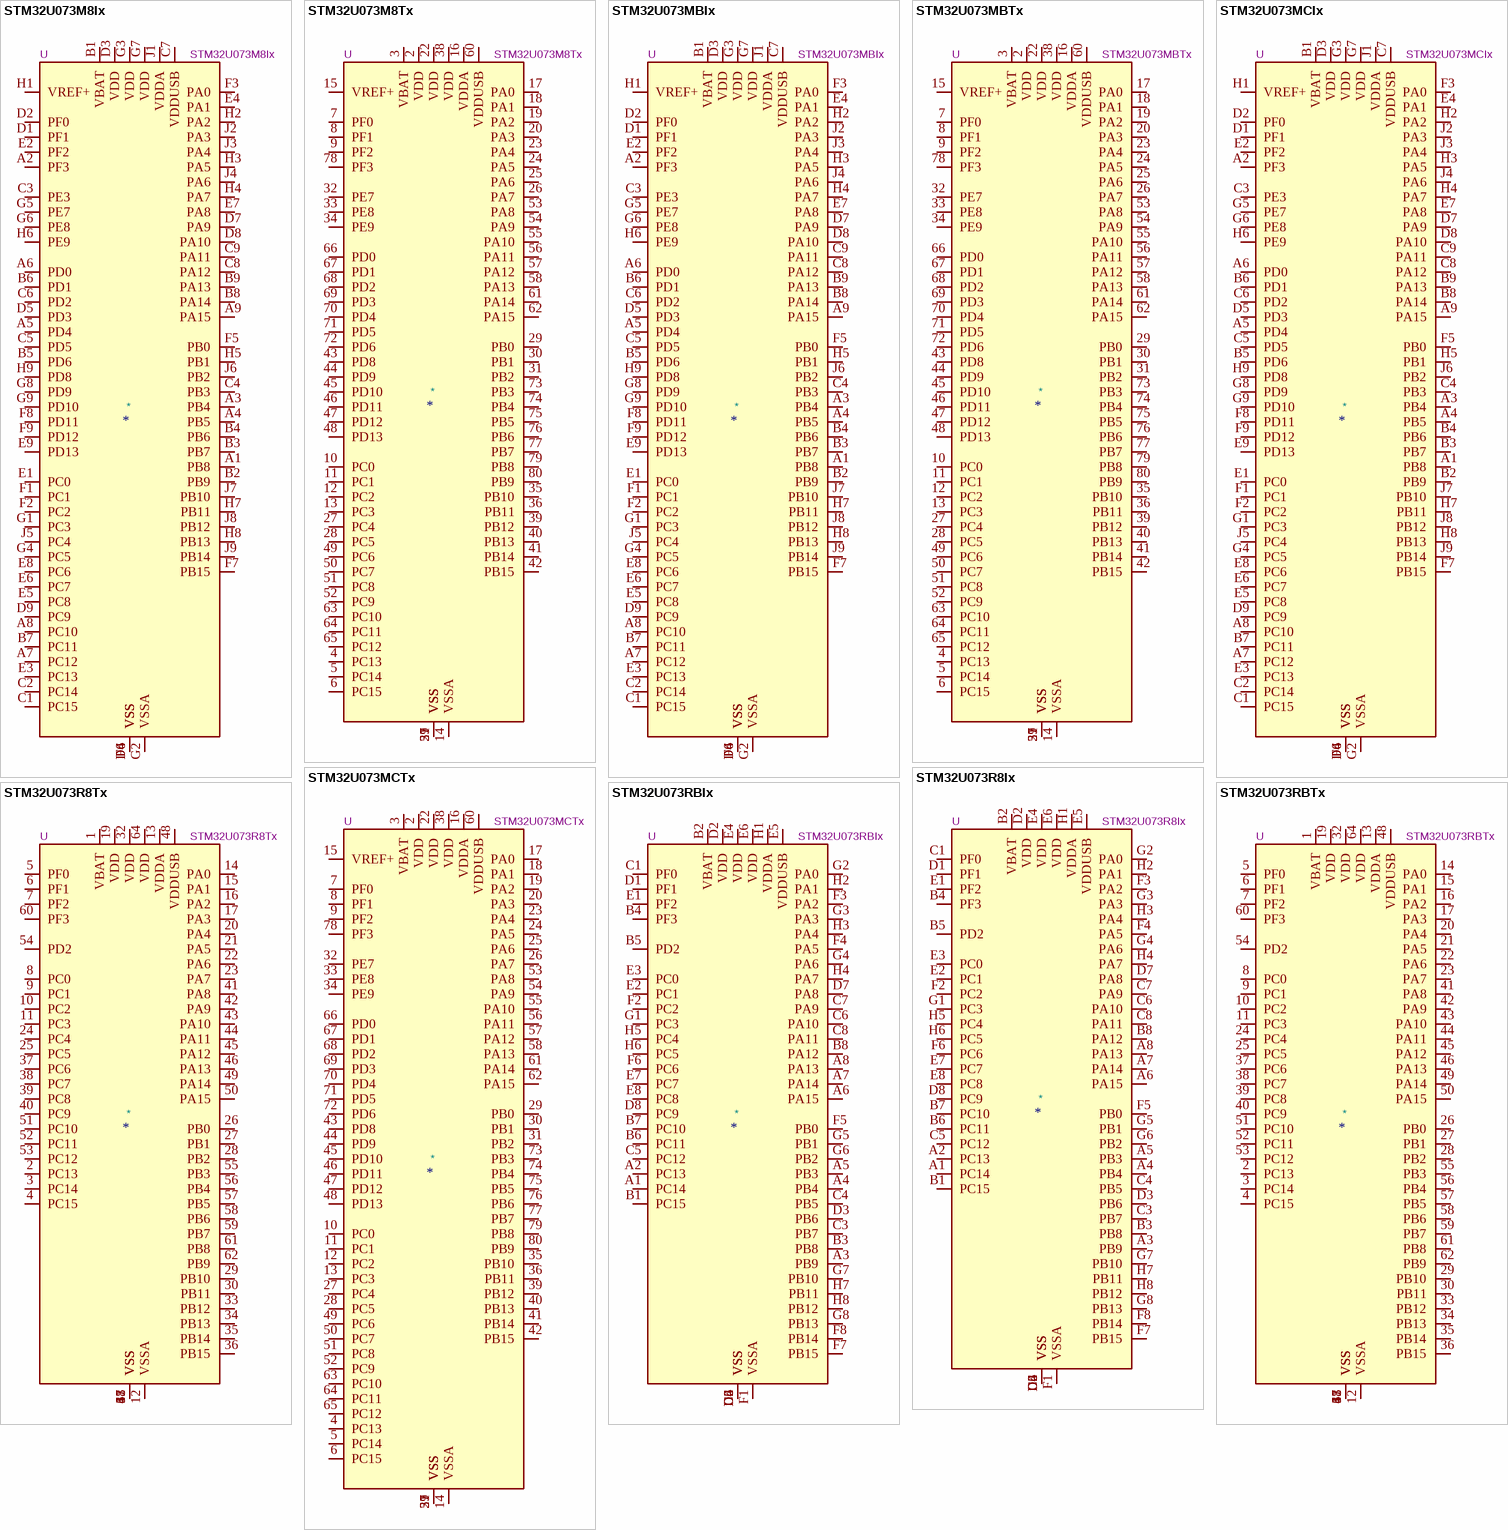
[diagram p2: symbols STM32U073M8Ix to STM32U073RBTx]

## STM32U073M8Ix
designator *  value STM32U073M8Ix  Reference: U
STMicroelectronics Arm Cortex-M0+ MCU, 64KB flash, 40KB RAM, 69 GPIO, UFBGA81; ki_keywords: Arm Cortex-M0+ STM32U0 STM32U0x3; ki_fp_filters: ST*UFBGA*5x5mm*Layout9x9*P0.5mm*; Footprint: Package_BGA:ST_UFBGA-81_5x5mm_Layout9x9_P0.5mm; Datasheet: https://www.st.com/resource/en/datasheet/stm32u073m8.pdf; Description_: STMicroelectronics Arm Cortex-M0+ MCU, 64KB flash, 40KB RAM, 69 GPIO, UFBGA81
pins: A1 PB8, A2 PF3, A3 PB4, A4 PB5, A5 PD4, A6 PD0, A7 PC12, A8 PC10, A9 PA15, B1 VBAT, B2 PB9, B3 PB7, B4 PB6, B5 PD6, B6 PD1, B7 PC11, B8 PA14, B9 PA13, C1 PC15, C2 PC14, C3 PE3, C4 PB3, C5 PD5, C6 PD2, C7 VDDUSB, C8 PA12, C9 PA11, D1 PF1, D2 PF0, D3 VDD, D4 VSS, D5 PD3, D6 VSS, D7 PA9, D8 PA10, D9 PC9, E1 PC0, E2 PF2, E3 PC13, E4 PA1, E5 PC8, E6 PC7, E7 PA8, E8 PC6, E9 PD13, F1 PC1, F2 PC2, F3 PA0, F4 VSS, F5 PB0, F6 VSS, F7 PB15, F8 PD11, F9 PD12, G1 PC3, G2 VSSA, G3 VDD, G4 PC5, G5 PE7, G6 PE8, G7 VDD, G8 PD9, G9 PD10, H1 VREF+, H2 PA2, H3 PA5, H4 PA7, H5 PB1, H6 PE9, H7 PB11, H8 PB13, H9 PD8, J1 VDDA, J2 PA3, J3 PA4, J4 PA6, J5 PC4, J6 PB2, J7 PB10, J8 PB12, J9 PB14

## STM32U073M8Tx
designator *  value STM32U073M8Tx  Reference: U
STMicroelectronics Arm Cortex-M0+ MCU, 64KB flash, 40KB RAM, 68 GPIO, LQFP80; ki_keywords: Arm Cortex-M0+ STM32U0 STM32U0x3; ki_fp_filters: LQFP*12x12mm*P0.5mm*; Footprint: Package_QFP:LQFP-80_12x12mm_P0.5mm; Datasheet: https://www.st.com/resource/en/datasheet/stm32u073m8.pdf; Description_: STMicroelectronics Arm Cortex-M0+ MCU, 64KB flash, 40KB RAM, 68 GPIO, LQFP80
pins: 1 VSS, 2 VDD, 3 VBAT, 4 PC13, 5 PC14, 6 PC15, 7 PF0, 8 PF1, 9 PF2, 10 PC0, 11 PC1, 12 PC2, 13 PC3, 14 VSSA, 15 VREF+, 16 VDDA, 17 PA0, 18 PA1, 19 PA2, 20 PA3, 21 VSS, 22 VDD, 23 PA4, 24 PA5, 25 PA6, 26 PA7, 27 PC4, 28 PC5, 29 PB0, 30 PB1, 31 PB2, 32 PE7, 33 PE8, 34 PE9, 35 PB10, 36 PB11, 37 VSS, 38 VDD, 39 PB12, 40 PB13, 41 PB14, 42 PB15, 43 PD8, 44 PD9, 45 PD10, 46 PD11, 47 PD12, 48 PD13, 49 PC6, 50 PC7, 51 PC8, 52 PC9, 53 PA8, 54 PA9, 55 PA10, 56 PA11, 57 PA12, 58 PA13, 59 VSS, 60 VDDUSB, 61 PA14, 62 PA15, 63 PC10, 64 PC11, 65 PC12, 66 PD0, 67 PD1, 68 PD2, 69 PD3, 70 PD4, 71 PD5, 72 PD6, 73 PB3, 74 PB4, 75 PB5, 76 PB6, 77 PB7, 78 PF3, 79 PB8, 80 PB9

## STM32U073MBIx
designator *  value STM32U073MBIx  Reference: U
STMicroelectronics Arm Cortex-M0+ MCU, 128KB flash, 40KB RAM, 69 GPIO, UFBGA81; ki_keywords: Arm Cortex-M0+ STM32U0 STM32U0x3; ki_fp_filters: ST*UFBGA*5x5mm*Layout9x9*P0.5mm*; Footprint: Package_BGA:ST_UFBGA-81_5x5mm_Layout9x9_P0.5mm; Datasheet: https://www.st.com/resource/en/datasheet/stm32u073mb.pdf; Description_: STMicroelectronics Arm Cortex-M0+ MCU, 128KB flash, 40KB RAM, 69 GPIO, UFBGA81
pins: A1 PB8, A2 PF3, A3 PB4, A4 PB5, A5 PD4, A6 PD0, A7 PC12, A8 PC10, A9 PA15, B1 VBAT, B2 PB9, B3 PB7, B4 PB6, B5 PD6, B6 PD1, B7 PC11, B8 PA14, B9 PA13, C1 PC15, C2 PC14, C3 PE3, C4 PB3, C5 PD5, C6 PD2, C7 VDDUSB, C8 PA12, C9 PA11, D1 PF1, D2 PF0, D3 VDD, D4 VSS, D5 PD3, D6 VSS, D7 PA9, D8 PA10, D9 PC9, E1 PC0, E2 PF2, E3 PC13, E4 PA1, E5 PC8, E6 PC7, E7 PA8, E8 PC6, E9 PD13, F1 PC1, F2 PC2, F3 PA0, F4 VSS, F5 PB0, F6 VSS, F7 PB15, F8 PD11, F9 PD12, G1 PC3, G2 VSSA, G3 VDD, G4 PC5, G5 PE7, G6 PE8, G7 VDD, G8 PD9, G9 PD10, H1 VREF+, H2 PA2, H3 PA5, H4 PA7, H5 PB1, H6 PE9, H7 PB11, H8 PB13, H9 PD8, J1 VDDA, J2 PA3, J3 PA4, J4 PA6, J5 PC4, J6 PB2, J7 PB10, J8 PB12, J9 PB14

## STM32U073MBTx
designator *  value STM32U073MBTx  Reference: U
STMicroelectronics Arm Cortex-M0+ MCU, 128KB flash, 40KB RAM, 68 GPIO, LQFP80; ki_keywords: Arm Cortex-M0+ STM32U0 STM32U0x3; ki_fp_filters: LQFP*12x12mm*P0.5mm*; Footprint: Package_QFP:LQFP-80_12x12mm_P0.5mm; Datasheet: https://www.st.com/resource/en/datasheet/stm32u073mb.pdf; Description_: STMicroelectronics Arm Cortex-M0+ MCU, 128KB flash, 40KB RAM, 68 GPIO, LQFP80
pins: 1 VSS, 2 VDD, 3 VBAT, 4 PC13, 5 PC14, 6 PC15, 7 PF0, 8 PF1, 9 PF2, 10 PC0, 11 PC1, 12 PC2, 13 PC3, 14 VSSA, 15 VREF+, 16 VDDA, 17 PA0, 18 PA1, 19 PA2, 20 PA3, 21 VSS, 22 VDD, 23 PA4, 24 PA5, 25 PA6, 26 PA7, 27 PC4, 28 PC5, 29 PB0, 30 PB1, 31 PB2, 32 PE7, 33 PE8, 34 PE9, 35 PB10, 36 PB11, 37 VSS, 38 VDD, 39 PB12, 40 PB13, 41 PB14, 42 PB15, 43 PD8, 44 PD9, 45 PD10, 46 PD11, 47 PD12, 48 PD13, 49 PC6, 50 PC7, 51 PC8, 52 PC9, 53 PA8, 54 PA9, 55 PA10, 56 PA11, 57 PA12, 58 PA13, 59 VSS, 60 VDDUSB, 61 PA14, 62 PA15, 63 PC10, 64 PC11, 65 PC12, 66 PD0, 67 PD1, 68 PD2, 69 PD3, 70 PD4, 71 PD5, 72 PD6, 73 PB3, 74 PB4, 75 PB5, 76 PB6, 77 PB7, 78 PF3, 79 PB8, 80 PB9

## STM32U073MCIx
designator *  value STM32U073MCIx  Reference: U
STMicroelectronics Arm Cortex-M0+ MCU, 256KB flash, 40KB RAM, 56 MHz, 69 GPIO, UFBGA81; ki_keywords: Arm Cortex-M0+ STM32U0 STM32U0x3; ki_fp_filters: ST*UFBGA*5x5mm*Layout9x9*P0.5mm*; Footprint: Package_BGA:ST_UFBGA-81_5x5mm_Layout9x9_P0.5mm; Datasheet: https://www.st.com/resource/en/datasheet/stm32u073mc.pdf; Description_: STMicroelectronics Arm Cortex-M0+ MCU, 256KB flash, 40KB RAM, 56 MHz, 69 GPIO, UFBGA81
pins: A1 PB8, A2 PF3, A3 PB4, A4 PB5, A5 PD4, A6 PD0, A7 PC12, A8 PC10, A9 PA15, B1 VBAT, B2 PB9, B3 PB7, B4 PB6, B5 PD6, B6 PD1, B7 PC11, B8 PA14, B9 PA13, C1 PC15, C2 PC14, C3 PE3, C4 PB3, C5 PD5, C6 PD2, C7 VDDUSB, C8 PA12, C9 PA11, D1 PF1, D2 PF0, D3 VDD, D4 VSS, D5 PD3, D6 VSS, D7 PA9, D8 PA10, D9 PC9, E1 PC0, E2 PF2, E3 PC13, E4 PA1, E5 PC8, E6 PC7, E7 PA8, E8 PC6, E9 PD13, F1 PC1, F2 PC2, F3 PA0, F4 VSS, F5 PB0, F6 VSS, F7 PB15, F8 PD11, F9 PD12, G1 PC3, G2 VSSA, G3 VDD, G4 PC5, G5 PE7, G6 PE8, G7 VDD, G8 PD9, G9 PD10, H1 VREF+, H2 PA2, H3 PA5, H4 PA7, H5 PB1, H6 PE9, H7 PB11, H8 PB13, H9 PD8, J1 VDDA, J2 PA3, J3 PA4, J4 PA6, J5 PC4, J6 PB2, J7 PB10, J8 PB12, J9 PB14

## STM32U073MCTx
designator *  value STM32U073MCTx  Reference: U
STMicroelectronics Arm Cortex-M0+ MCU, 256KB flash, 40KB RAM, 56 MHz, 68 GPIO, LQFP80; ki_keywords: Arm Cortex-M0+ STM32U0 STM32U0x3; ki_fp_filters: LQFP*12x12mm*P0.5mm*; Footprint: Package_QFP:LQFP-80_12x12mm_P0.5mm; Datasheet: https://www.st.com/resource/en/datasheet/stm32u073mc.pdf; Description_: STMicroelectronics Arm Cortex-M0+ MCU, 256KB flash, 40KB RAM, 56 MHz, 68 GPIO, LQFP80
pins: 1 VSS, 2 VDD, 3 VBAT, 4 PC13, 5 PC14, 6 PC15, 7 PF0, 8 PF1, 9 PF2, 10 PC0, 11 PC1, 12 PC2, 13 PC3, 14 VSSA, 15 VREF+, 16 VDDA, 17 PA0, 18 PA1, 19 PA2, 20 PA3, 21 VSS, 22 VDD, 23 PA4, 24 PA5, 25 PA6, 26 PA7, 27 PC4, 28 PC5, 29 PB0, 30 PB1, 31 PB2, 32 PE7, 33 PE8, 34 PE9, 35 PB10, 36 PB11, 37 VSS, 38 VDD, 39 PB12, 40 PB13, 41 PB14, 42 PB15, 43 PD8, 44 PD9, 45 PD10, 46 PD11, 47 PD12, 48 PD13, 49 PC6, 50 PC7, 51 PC8, 52 PC9, 53 PA8, 54 PA9, 55 PA10, 56 PA11, 57 PA12, 58 PA13, 59 VSS, 60 VDDUSB, 61 PA14, 62 PA15, 63 PC10, 64 PC11, 65 PC12, 66 PD0, 67 PD1, 68 PD2, 69 PD3, 70 PD4, 71 PD5, 72 PD6, 73 PB3, 74 PB4, 75 PB5, 76 PB6, 77 PB7, 78 PF3, 79 PB8, 80 PB9

## STM32U073R8Ix
designator *  value STM32U073R8Ix  Reference: U
STMicroelectronics Arm Cortex-M0+ MCU, 64KB flash, 40KB RAM, 53 GPIO, UFBGA64; ki_keywords: Arm Cortex-M0+ STM32U0 STM32U0x3; ki_fp_filters: UFBGA*5x5mm*Layout8x8*P0.5mm*; Footprint: Package_BGA:UFBGA-64_5x5mm_Layout8x8_P0.5mm; Datasheet: https://www.st.com/resource/en/datasheet/stm32u073r8.pdf; Description_: STMicroelectronics Arm Cortex-M0+ MCU, 64KB flash, 40KB RAM, 53 GPIO, UFBGA64
pins: A1 PC14, A2 PC13, A3 PB9, A4 PB4, A5 PB3, A6 PA15, A7 PA14, A8 PA13, B1 PC15, B2 VBAT, B3 PB8, B4 PF3, B5 PD2, B6 PC11, B7 PC10, B8 PA12, C1 PF0, C2 VSS, C3 PB7, C4 PB5, C5 PC12, C6 PA10, C7 PA9, C8 PA11, D1 PF1, D2 VDD, D3 PB6, D4 VSS, D5 VSS, D6 VSS, D7 PA8, D8 PC9, E1 PF2, E2 PC1, E3 PC0, E4 VDD, E5 VDDUSB, E6 VDD, E7 PC7, E8 PC8, F1 VSSA, F2 PC2, F3 PA2, F4 PA5, F5 PB0, F6 PC6, F7 PB15, F8 PB14, G1 PC3, G2 PA0, G3 PA3, G4 PA6, G5 PB1, G6 PB2, G7 PB10, G8 PB13, H1 VDDA, H2 PA1, H3 PA4, H4 PA7, H5 PC4, H6 PC5, H7 PB11, H8 PB12

## STM32U073R8Tx
designator *  value STM32U073R8Tx  Reference: U
STMicroelectronics Arm Cortex-M0+ MCU, 64KB flash, 40KB RAM, 53 GPIO, LQFP64; ki_keywords: Arm Cortex-M0+ STM32U0 STM32U0x3; ki_fp_filters: LQFP*10x10mm*P0.5mm*; Footprint: Package_QFP:LQFP-64_10x10mm_P0.5mm; Datasheet: https://www.st.com/resource/en/datasheet/stm32u073r8.pdf; Description_: STMicroelectronics Arm Cortex-M0+ MCU, 64KB flash, 40KB RAM, 53 GPIO, LQFP64
pins: 1 VBAT, 2 PC13, 3 PC14, 4 PC15, 5 PF0, 6 PF1, 7 PF2, 8 PC0, 9 PC1, 10 PC2, 11 PC3, 12 VSSA, 13 VDDA, 14 PA0, 15 PA1, 16 PA2, 17 PA3, 18 VSS, 19 VDD, 20 PA4, 21 PA5, 22 PA6, 23 PA7, 24 PC4, 25 PC5, 26 PB0, 27 PB1, 28 PB2, 29 PB10, 30 PB11, 31 VSS, 32 VDD, 33 PB12, 34 PB13, 35 PB14, 36 PB15, 37 PC6, 38 PC7, 39 PC8, 40 PC9, 41 PA8, 42 PA9, 43 PA10, 44 PA11, 45 PA12, 46 PA13, 47 VSS, 48 VDDUSB, 49 PA14, 50 PA15, 51 PC10, 52 PC11, 53 PC12, 54 PD2, 55 PB3, 56 PB4, 57 PB5, 58 PB6, 59 PB7, 60 PF3, 61 PB8, 62 PB9, 63 VSS, 64 VDD

## STM32U073RBIx
designator *  value STM32U073RBIx  Reference: U
STMicroelectronics Arm Cortex-M0+ MCU, 128KB flash, 40KB RAM, 53 GPIO, UFBGA64; ki_keywords: Arm Cortex-M0+ STM32U0 STM32U0x3; ki_fp_filters: UFBGA*5x5mm*Layout8x8*P0.5mm*; Footprint: Package_BGA:UFBGA-64_5x5mm_Layout8x8_P0.5mm; Datasheet: https://www.st.com/resource/en/datasheet/stm32u073rb.pdf; Description_: STMicroelectronics Arm Cortex-M0+ MCU, 128KB flash, 40KB RAM, 53 GPIO, UFBGA64
pins: A1 PC14, A2 PC13, A3 PB9, A4 PB4, A5 PB3, A6 PA15, A7 PA14, A8 PA13, B1 PC15, B2 VBAT, B3 PB8, B4 PF3, B5 PD2, B6 PC11, B7 PC10, B8 PA12, C1 PF0, C2 VSS, C3 PB7, C4 PB5, C5 PC12, C6 PA10, C7 PA9, C8 PA11, D1 PF1, D2 VDD, D3 PB6, D4 VSS, D5 VSS, D6 VSS, D7 PA8, D8 PC9, E1 PF2, E2 PC1, E3 PC0, E4 VDD, E5 VDDUSB, E6 VDD, E7 PC7, E8 PC8, F1 VSSA, F2 PC2, F3 PA2, F4 PA5, F5 PB0, F6 PC6, F7 PB15, F8 PB14, G1 PC3, G2 PA0, G3 PA3, G4 PA6, G5 PB1, G6 PB2, G7 PB10, G8 PB13, H1 VDDA, H2 PA1, H3 PA4, H4 PA7, H5 PC4, H6 PC5, H7 PB11, H8 PB12

## STM32U073RBTx
designator *  value STM32U073RBTx  Reference: U
STMicroelectronics Arm Cortex-M0+ MCU, 128KB flash, 40KB RAM, 53 GPIO, LQFP64; ki_keywords: Arm Cortex-M0+ STM32U0 STM32U0x3; ki_fp_filters: LQFP*10x10mm*P0.5mm*; Footprint: Package_QFP:LQFP-64_10x10mm_P0.5mm; Datasheet: https://www.st.com/resource/en/datasheet/stm32u073rb.pdf; Description_: STMicroelectronics Arm Cortex-M0+ MCU, 128KB flash, 40KB RAM, 53 GPIO, LQFP64
pins: 1 VBAT, 2 PC13, 3 PC14, 4 PC15, 5 PF0, 6 PF1, 7 PF2, 8 PC0, 9 PC1, 10 PC2, 11 PC3, 12 VSSA, 13 VDDA, 14 PA0, 15 PA1, 16 PA2, 17 PA3, 18 VSS, 19 VDD, 20 PA4, 21 PA5, 22 PA6, 23 PA7, 24 PC4, 25 PC5, 26 PB0, 27 PB1, 28 PB2, 29 PB10, 30 PB11, 31 VSS, 32 VDD, 33 PB12, 34 PB13, 35 PB14, 36 PB15, 37 PC6, 38 PC7, 39 PC8, 40 PC9, 41 PA8, 42 PA9, 43 PA10, 44 PA11, 45 PA12, 46 PA13, 47 VSS, 48 VDDUSB, 49 PA14, 50 PA15, 51 PC10, 52 PC11, 53 PC12, 54 PD2, 55 PB3, 56 PB4, 57 PB5, 58 PB6, 59 PB7, 60 PF3, 61 PB8, 62 PB9, 63 VSS, 64 VDD

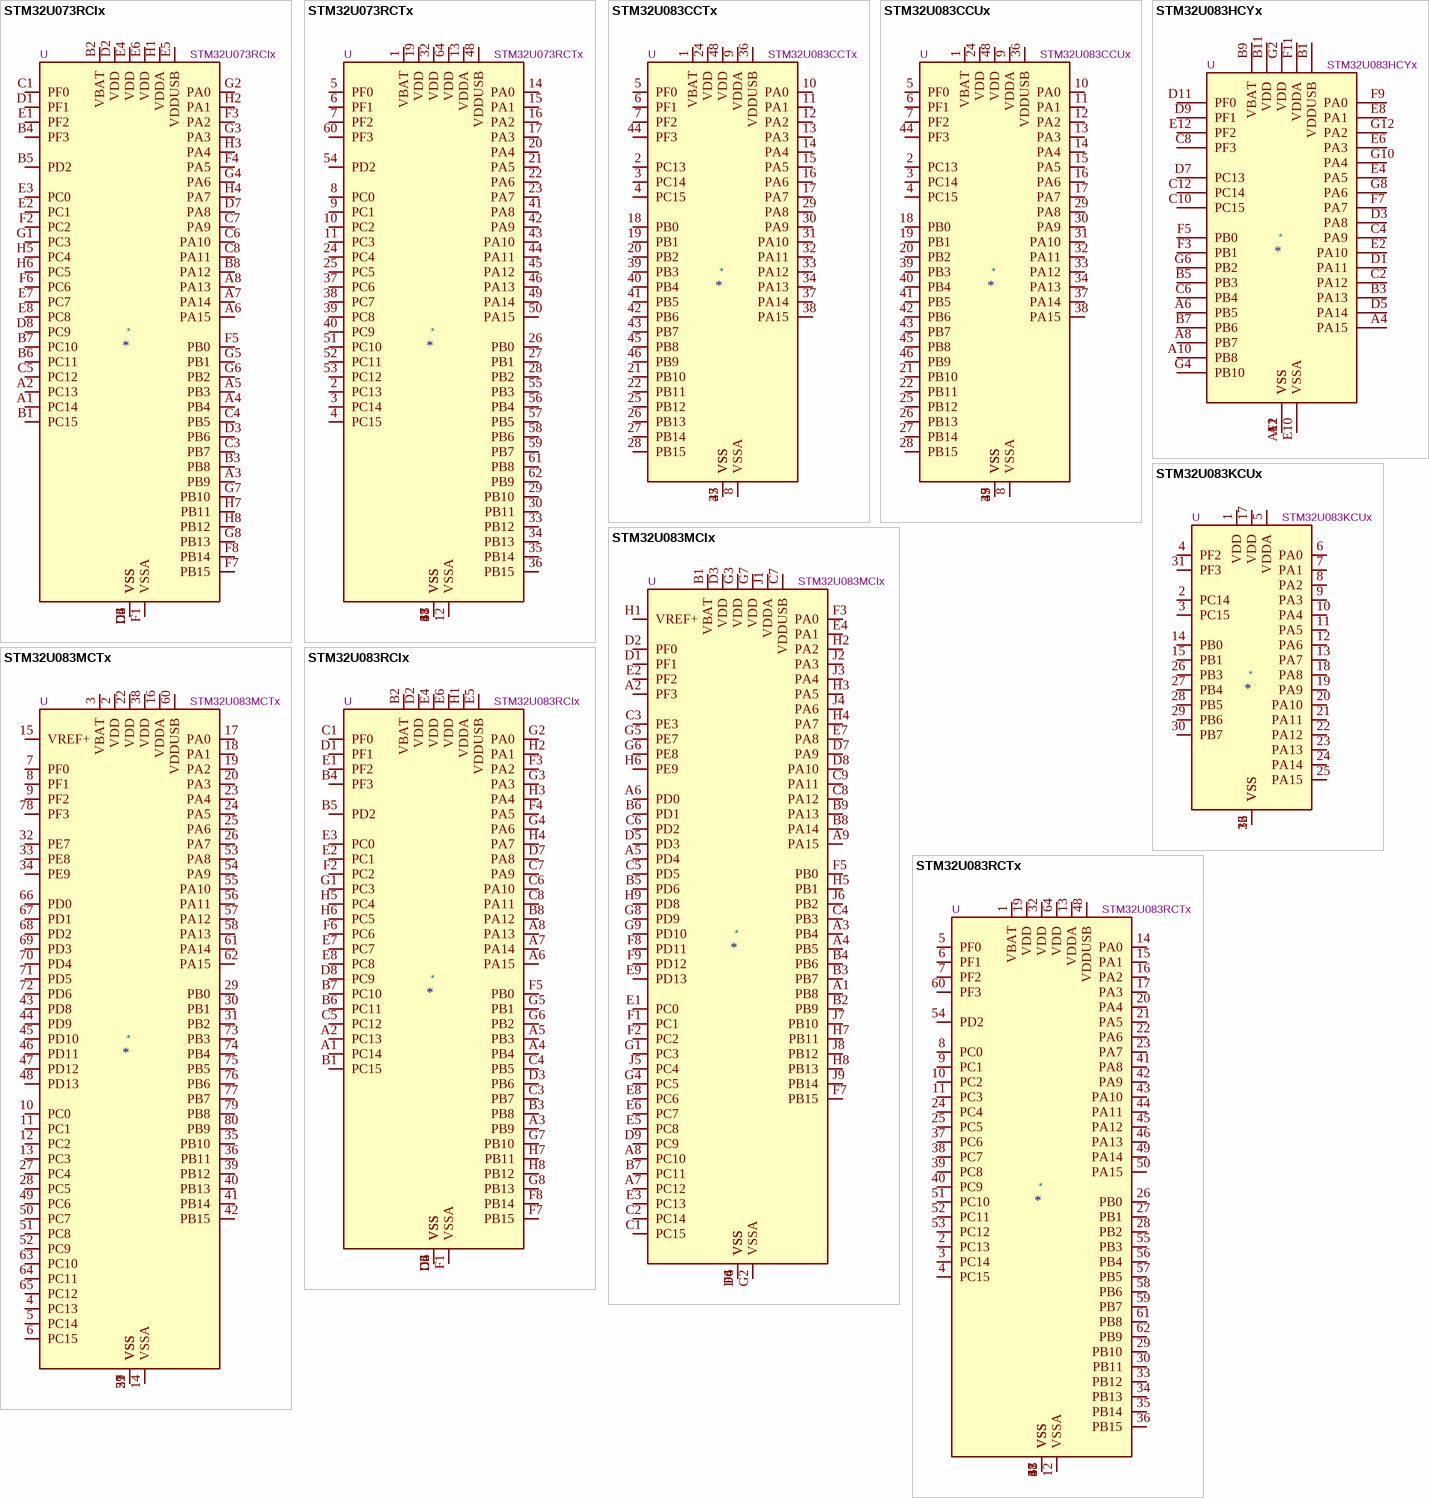
[diagram p3: symbols STM32U073RCIx to STM32U083RCTx]

## STM32U073RCIx
designator *  value STM32U073RCIx  Reference: U
STMicroelectronics Arm Cortex-M0+ MCU, 256KB flash, 40KB RAM, 53 GPIO, UFBGA64; ki_keywords: Arm Cortex-M0+ STM32U0 STM32U0x3; ki_fp_filters: UFBGA*5x5mm*Layout8x8*P0.5mm*; Footprint: Package_BGA:UFBGA-64_5x5mm_Layout8x8_P0.5mm; Datasheet: https://www.st.com/resource/en/datasheet/stm32u073rc.pdf; Description_: STMicroelectronics Arm Cortex-M0+ MCU, 256KB flash, 40KB RAM, 53 GPIO, UFBGA64
pins: A1 PC14, A2 PC13, A3 PB9, A4 PB4, A5 PB3, A6 PA15, A7 PA14, A8 PA13, B1 PC15, B2 VBAT, B3 PB8, B4 PF3, B5 PD2, B6 PC11, B7 PC10, B8 PA12, C1 PF0, C2 VSS, C3 PB7, C4 PB5, C5 PC12, C6 PA10, C7 PA9, C8 PA11, D1 PF1, D2 VDD, D3 PB6, D4 VSS, D5 VSS, D6 VSS, D7 PA8, D8 PC9, E1 PF2, E2 PC1, E3 PC0, E4 VDD, E5 VDDUSB, E6 VDD, E7 PC7, E8 PC8, F1 VSSA, F2 PC2, F3 PA2, F4 PA5, F5 PB0, F6 PC6, F7 PB15, F8 PB14, G1 PC3, G2 PA0, G3 PA3, G4 PA6, G5 PB1, G6 PB2, G7 PB10, G8 PB13, H1 VDDA, H2 PA1, H3 PA4, H4 PA7, H5 PC4, H6 PC5, H7 PB11, H8 PB12

## STM32U073RCTx
designator *  value STM32U073RCTx  Reference: U
STMicroelectronics Arm Cortex-M0+ MCU, 256KB flash, 40KB RAM, 56 MHz, 53 GPIO, LQFP64; ki_keywords: Arm Cortex-M0+ STM32U0 STM32U0x3; ki_fp_filters: LQFP*10x10mm*P0.5mm*; Footprint: Package_QFP:LQFP-64_10x10mm_P0.5mm; Datasheet: https://www.st.com/resource/en/datasheet/stm32u073rc.pdf; Description_: STMicroelectronics Arm Cortex-M0+ MCU, 256KB flash, 40KB RAM, 56 MHz, 53 GPIO, LQFP64
pins: 1 VBAT, 2 PC13, 3 PC14, 4 PC15, 5 PF0, 6 PF1, 7 PF2, 8 PC0, 9 PC1, 10 PC2, 11 PC3, 12 VSSA, 13 VDDA, 14 PA0, 15 PA1, 16 PA2, 17 PA3, 18 VSS, 19 VDD, 20 PA4, 21 PA5, 22 PA6, 23 PA7, 24 PC4, 25 PC5, 26 PB0, 27 PB1, 28 PB2, 29 PB10, 30 PB11, 31 VSS, 32 VDD, 33 PB12, 34 PB13, 35 PB14, 36 PB15, 37 PC6, 38 PC7, 39 PC8, 40 PC9, 41 PA8, 42 PA9, 43 PA10, 44 PA11, 45 PA12, 46 PA13, 47 VSS, 48 VDDUSB, 49 PA14, 50 PA15, 51 PC10, 52 PC11, 53 PC12, 54 PD2, 55 PB3, 56 PB4, 57 PB5, 58 PB6, 59 PB7, 60 PF3, 61 PB8, 62 PB9, 63 VSS, 64 VDD

## STM32U083CCTx
designator *  value STM32U083CCTx  Reference: U
STMicroelectronics Arm Cortex-M0+ MCU, 256KB flash, 40KB RAM, 39 GPIO, LQFP48; ki_keywords: Arm Cortex-M0+ STM32U0 STM32U0x3; ki_fp_filters: LQFP*7x7mm*P0.5mm*; Footprint: Package_QFP:LQFP-48_7x7mm_P0.5mm; Datasheet: https://www.st.com/resource/en/datasheet/stm32u083cc.pdf; Description_: STMicroelectronics Arm Cortex-M0+ MCU, 256KB flash, 40KB RAM, 39 GPIO, LQFP48
pins: 1 VBAT, 2 PC13, 3 PC14, 4 PC15, 5 PF0, 6 PF1, 7 PF2, 8 VSSA, 9 VDDA, 10 PA0, 11 PA1, 12 PA2, 13 PA3, 14 PA4, 15 PA5, 16 PA6, 17 PA7, 18 PB0, 19 PB1, 20 PB2, 21 PB10, 22 PB11, 23 VSS, 24 VDD, 25 PB12, 26 PB13, 27 PB14, 28 PB15, 29 PA8, 30 PA9, 31 PA10, 32 PA11, 33 PA12, 34 PA13, 35 VSS, 36 VDDUSB, 37 PA14, 38 PA15, 39 PB3, 40 PB4, 41 PB5, 42 PB6, 43 PB7, 44 PF3, 45 PB8, 46 PB9, 47 VSS, 48 VDD

## STM32U083CCUx
designator *  value STM32U083CCUx  Reference: U
STMicroelectronics Arm Cortex-M0+ MCU, 256KB flash, 40KB RAM, 39 GPIO, UFQFPN48; ki_keywords: Arm Cortex-M0+ STM32U0 STM32U0x3; ki_fp_filters: QFN*1EP*7x7mm*P0.5mm*; Footprint: Package_DFN_QFN:QFN-48-1EP_7x7mm_P0.5mm_EP5.6x5.6mm; Datasheet: https://www.st.com/resource/en/datasheet/stm32u083cc.pdf; Description_: STMicroelectronics Arm Cortex-M0+ MCU, 256KB flash, 40KB RAM, 39 GPIO, UFQFPN48
pins: 1 VBAT, 2 PC13, 3 PC14, 4 PC15, 5 PF0, 6 PF1, 7 PF2, 8 VSSA, 9 VDDA, 10 PA0, 11 PA1, 12 PA2, 13 PA3, 14 PA4, 15 PA5, 16 PA6, 17 PA7, 18 PB0, 19 PB1, 20 PB2, 21 PB10, 22 PB11, 23 VSS, 24 VDD, 25 PB12, 26 PB13, 27 PB14, 28 PB15, 29 PA8, 30 PA9, 31 PA10, 32 PA11, 33 PA12, 34 PA13, 35 VSS, 36 VDDUSB, 37 PA14, 38 PA15, 39 PB3, 40 PB4, 41 PB5, 42 PB6, 43 PB7, 44 PF3, 45 PB8, 46 PB9, 47 VSS, 48 VDD, 49 VSS

## STM32U083HCYx
designator *  value STM32U083HCYx  Reference: U
STMicroelectronics Arm Cortex-M0+ MCU, 256KB flash, 40KB RAM, 33 GPIO, WLCSP42; ki_keywords: Arm Cortex-M0+ STM32U0 STM32U0x3; ki_fp_filters: ST*WLCSP*2.93x2.82mm*Layout12x7*P0.4mm*Stagger*; Footprint: Package_CSP:ST_WLCSP-42_2.93x2.82mm_Layout12x7_P0.4mm_Stagger; Datasheet: https://www.st.com/resource/en/datasheet/stm32u083hc.pdf; Description_: STMicroelectronics Arm Cortex-M0+ MCU, 256KB flash, 40KB RAM, 33 GPIO, WLCSP42
pins: A2 VSS, A4 PA15, A6 PB5, A8 PB7, A10 PB8, A12 VSS, B1 VDDUSB, B3 PA13, B5 PB3, B7 PB6, B9 VBAT, B11 VDD, C2 PA12, C4 PA9, C6 PB4, C8 PF3, C10 PC15, C12 PC14, D1 PA11, D3 PA8, D5 PA14, D7 PC13, D9 PF1, D11 PF0, E2 PA10, E4 PA5, E6 PA3, E8 PA1, E10 VSSA, E12 PF2, F1 VSS, F3 PB1, F5 PB0, F7 PA7, F9 PA0, F11 VDDA, G2 VDD, G4 PB10, G6 PB2, G8 PA6, G10 PA4, G12 PA2

## STM32U083KCUx
designator *  value STM32U083KCUx  Reference: U
STMicroelectronics Arm Cortex-M0+ MCU, 256KB flash, 40KB RAM, 56 MHz, 27 GPIO, UFQFPN32; ki_keywords: Arm Cortex-M0+ STM32U0 STM32U0x3; ki_fp_filters: QFN*1EP*5x5mm*P0.5mm*; Footprint: Package_DFN_QFN:QFN-32-1EP_5x5mm_P0.5mm_EP3.45x3.45mm; Datasheet: https://www.st.com/resource/en/datasheet/stm32u083kc.pdf; Description_: STMicroelectronics Arm Cortex-M0+ MCU, 256KB flash, 40KB RAM, 56 MHz, 27 GPIO, UFQFPN32
pins: 1 VDD, 2 PC14, 3 PC15, 4 PF2, 5 VDDA, 6 PA0, 7 PA1, 8 PA2, 9 PA3, 10 PA4, 11 PA5, 12 PA6, 13 PA7, 14 PB0, 15 PB1, 16 VSS, 17 VDD, 18 PA8, 19 PA9, 20 PA10, 21 PA11, 22 PA12, 23 PA13, 24 PA14, 25 PA15, 26 PB3, 27 PB4, 28 PB5, 29 PB6, 30 PB7, 31 PF3, 32 VSS, 33 VSS

## STM32U083MCIx
designator *  value STM32U083MCIx  Reference: U
STMicroelectronics Arm Cortex-M0+ MCU, 256KB flash, 40KB RAM, 69 GPIO, UFBGA81; ki_keywords: Arm Cortex-M0+ STM32U0 STM32U0x3; ki_fp_filters: ST*UFBGA*5x5mm*Layout9x9*P0.5mm*; Footprint: Package_BGA:ST_UFBGA-81_5x5mm_Layout9x9_P0.5mm; Datasheet: https://www.st.com/resource/en/datasheet/stm32u083mc.pdf; Description_: STMicroelectronics Arm Cortex-M0+ MCU, 256KB flash, 40KB RAM, 69 GPIO, UFBGA81
pins: A1 PB8, A2 PF3, A3 PB4, A4 PB5, A5 PD4, A6 PD0, A7 PC12, A8 PC10, A9 PA15, B1 VBAT, B2 PB9, B3 PB7, B4 PB6, B5 PD6, B6 PD1, B7 PC11, B8 PA14, B9 PA13, C1 PC15, C2 PC14, C3 PE3, C4 PB3, C5 PD5, C6 PD2, C7 VDDUSB, C8 PA12, C9 PA11, D1 PF1, D2 PF0, D3 VDD, D4 VSS, D5 PD3, D6 VSS, D7 PA9, D8 PA10, D9 PC9, E1 PC0, E2 PF2, E3 PC13, E4 PA1, E5 PC8, E6 PC7, E7 PA8, E8 PC6, E9 PD13, F1 PC1, F2 PC2, F3 PA0, F4 VSS, F5 PB0, F6 VSS, F7 PB15, F8 PD11, F9 PD12, G1 PC3, G2 VSSA, G3 VDD, G4 PC5, G5 PE7, G6 PE8, G7 VDD, G8 PD9, G9 PD10, H1 VREF+, H2 PA2, H3 PA5, H4 PA7, H5 PB1, H6 PE9, H7 PB11, H8 PB13, H9 PD8, J1 VDDA, J2 PA3, J3 PA4, J4 PA6, J5 PC4, J6 PB2, J7 PB10, J8 PB12, J9 PB14

## STM32U083MCTx
designator *  value STM32U083MCTx  Reference: U
STMicroelectronics Arm Cortex-M0+ MCU, 256KB flash, 40KB RAM, 68 GPIO, LQFP80; ki_keywords: Arm Cortex-M0+ STM32U0 STM32U0x3; ki_fp_filters: LQFP*12x12mm*P0.5mm*; Footprint: Package_QFP:LQFP-80_12x12mm_P0.5mm; Datasheet: https://www.st.com/resource/en/datasheet/stm32u083mc.pdf; Description_: STMicroelectronics Arm Cortex-M0+ MCU, 256KB flash, 40KB RAM, 68 GPIO, LQFP80
pins: 1 VSS, 2 VDD, 3 VBAT, 4 PC13, 5 PC14, 6 PC15, 7 PF0, 8 PF1, 9 PF2, 10 PC0, 11 PC1, 12 PC2, 13 PC3, 14 VSSA, 15 VREF+, 16 VDDA, 17 PA0, 18 PA1, 19 PA2, 20 PA3, 21 VSS, 22 VDD, 23 PA4, 24 PA5, 25 PA6, 26 PA7, 27 PC4, 28 PC5, 29 PB0, 30 PB1, 31 PB2, 32 PE7, 33 PE8, 34 PE9, 35 PB10, 36 PB11, 37 VSS, 38 VDD, 39 PB12, 40 PB13, 41 PB14, 42 PB15, 43 PD8, 44 PD9, 45 PD10, 46 PD11, 47 PD12, 48 PD13, 49 PC6, 50 PC7, 51 PC8, 52 PC9, 53 PA8, 54 PA9, 55 PA10, 56 PA11, 57 PA12, 58 PA13, 59 VSS, 60 VDDUSB, 61 PA14, 62 PA15, 63 PC10, 64 PC11, 65 PC12, 66 PD0, 67 PD1, 68 PD2, 69 PD3, 70 PD4, 71 PD5, 72 PD6, 73 PB3, 74 PB4, 75 PB5, 76 PB6, 77 PB7, 78 PF3, 79 PB8, 80 PB9

## STM32U083RCIx
designator *  value STM32U083RCIx  Reference: U
STMicroelectronics Arm Cortex-M0+ MCU, 256KB flash, 40KB RAM, 53 GPIO, UFBGA64; ki_keywords: Arm Cortex-M0+ STM32U0 STM32U0x3; ki_fp_filters: UFBGA*5x5mm*Layout8x8*P0.5mm*; Footprint: Package_BGA:UFBGA-64_5x5mm_Layout8x8_P0.5mm; Datasheet: https://www.st.com/resource/en/datasheet/stm32u083rc.pdf; Description_: STMicroelectronics Arm Cortex-M0+ MCU, 256KB flash, 40KB RAM, 53 GPIO, UFBGA64
pins: A1 PC14, A2 PC13, A3 PB9, A4 PB4, A5 PB3, A6 PA15, A7 PA14, A8 PA13, B1 PC15, B2 VBAT, B3 PB8, B4 PF3, B5 PD2, B6 PC11, B7 PC10, B8 PA12, C1 PF0, C2 VSS, C3 PB7, C4 PB5, C5 PC12, C6 PA10, C7 PA9, C8 PA11, D1 PF1, D2 VDD, D3 PB6, D4 VSS, D5 VSS, D6 VSS, D7 PA8, D8 PC9, E1 PF2, E2 PC1, E3 PC0, E4 VDD, E5 VDDUSB, E6 VDD, E7 PC7, E8 PC8, F1 VSSA, F2 PC2, F3 PA2, F4 PA5, F5 PB0, F6 PC6, F7 PB15, F8 PB14, G1 PC3, G2 PA0, G3 PA3, G4 PA6, G5 PB1, G6 PB2, G7 PB10, G8 PB13, H1 VDDA, H2 PA1, H3 PA4, H4 PA7, H5 PC4, H6 PC5, H7 PB11, H8 PB12

## STM32U083RCTx
designator *  value STM32U083RCTx  Reference: U
STMicroelectronics Arm Cortex-M0+ MCU, 256KB flash, 40KB RAM, 53 GPIO, LQFP64; ki_keywords: Arm Cortex-M0+ STM32U0 STM32U0x3; ki_fp_filters: LQFP*10x10mm*P0.5mm*; Footprint: Package_QFP:LQFP-64_10x10mm_P0.5mm; Datasheet: https://www.st.com/resource/en/datasheet/stm32u083rc.pdf; Description_: STMicroelectronics Arm Cortex-M0+ MCU, 256KB flash, 40KB RAM, 53 GPIO, LQFP64
pins: 1 VBAT, 2 PC13, 3 PC14, 4 PC15, 5 PF0, 6 PF1, 7 PF2, 8 PC0, 9 PC1, 10 PC2, 11 PC3, 12 VSSA, 13 VDDA, 14 PA0, 15 PA1, 16 PA2, 17 PA3, 18 VSS, 19 VDD, 20 PA4, 21 PA5, 22 PA6, 23 PA7, 24 PC4, 25 PC5, 26 PB0, 27 PB1, 28 PB2, 29 PB10, 30 PB11, 31 VSS, 32 VDD, 33 PB12, 34 PB13, 35 PB14, 36 PB15, 37 PC6, 38 PC7, 39 PC8, 40 PC9, 41 PA8, 42 PA9, 43 PA10, 44 PA11, 45 PA12, 46 PA13, 47 VSS, 48 VDDUSB, 49 PA14, 50 PA15, 51 PC10, 52 PC11, 53 PC12, 54 PD2, 55 PB3, 56 PB4, 57 PB5, 58 PB6, 59 PB7, 60 PF3, 61 PB8, 62 PB9, 63 VSS, 64 VDD